# Altium schematic symbol library microchip.SCHLIB: 312 symbols (part 3 of 5)
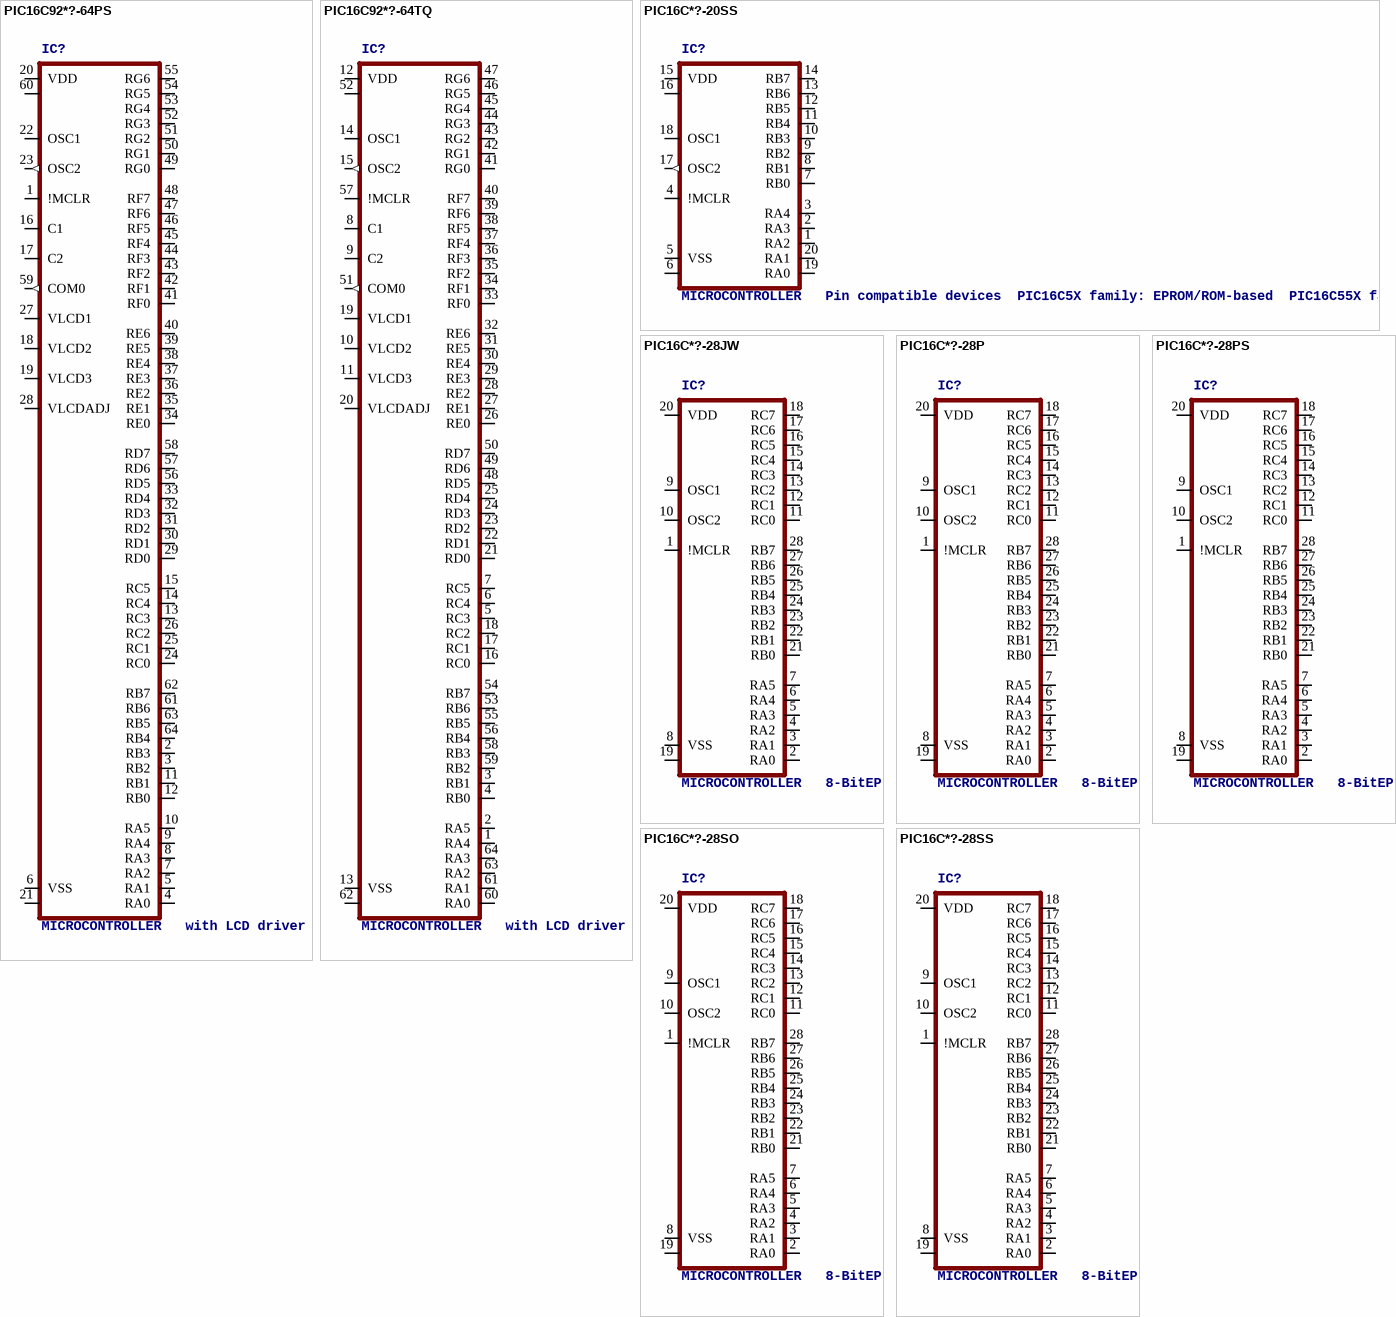
[diagram p45: symbols PIC16C92*?-64PS to PIC16C*?-28SS]

## PIC16C*?-28PS
designator IC?, comment MICROCONTROLLER   8-BitEPROM/ROM-based   Pin compatible:   PIC16CR62, PIC16C62A, PIC16C63, PIC16CR63   PIC16C66, PIC16C72, PIC16C73A, PIC16C76
MPN: PIC16C62B-20/SP; MPN: PIC16C62A-10/SP; MPN: PIC16C63-04I/SP; MPN: PIC16C66-04I/SP; MPN: PIC16C72A-04/SP; MPN: PIC16C73A-20/SP; MPN: PIC16C76-04/SP; MF: MICROCHIP; OC_FARNELL: 9759565; OC_NEWARK: 12C1900; OC_FARNELL: 1818502; OC_NEWARK: 23C3774; OC_FARNELL: 9759590; OC_NEWARK: 23C4025; OC_FARNELL: 685999; OC_NEWARK: 23C4276; OC_FARNELL: 1196858; OC_NEWARK: 12C1924; OC_FARNELL: 1196850; OC_NEWARK: 69K7069; OC_FARNELL: 1196836; OC_NEWARK: 96K3849; OC_FARNELL: unknown; OC_NEWARK: unknown
footprint DIL28-3
pins: 1 !MCLR, 2 RA0, 3 RA1, 4 RA2, 5 RA3, 6 RA4, 7 RA5, 8 VSS (power), 9 OSC1, 10 OSC2, 11 RC0, 12 RC1, 13 RC2, 14 RC3, 15 RC4, 16 RC5, 17 RC6, 18 RC7, 19 VSS@1 (power), 20 VDD (power), 21 RB0, 22 RB1, 23 RB2, 24 RB3, 25 RB4, 26 RB5, 27 RB6, 28 RB7

## PIC16C*?-28SO
designator IC?, comment MICROCONTROLLER   8-BitEPROM/ROM-based   Pin compatible:   PIC16CR62, PIC16C62A, PIC16C63, PIC16CR63   PIC16C66, PIC16C72, PIC16C73A, PIC16C76
MPN: PIC16C62A-20/SO; MPN: PIC16C63-04/SO; MPN: PIC16C66-10/SO; MPN: PIC16C72-04/SO; MPN: PIC16C73A-04/SO; MPN: PIC16C76-20/SO; MF: MICROCHIP; OC_FARNELL: 9759573; OC_NEWARK: 23C3782; OC_FARNELL: 9759581; OC_NEWARK: 97K7237; OC_FARNELL: 9759727; OC_NEWARK: 97K7254; OC_FARNELL: 9759891; OC_NEWARK: 23C4583; OC_FARNELL: 9759930; OC_NEWARK: 97K7282; OC_FARNELL: unknown; OC_NEWARK: 65K1040; OC_NEWARK: unknown
footprint SO28W
pins: 1 !MCLR, 2 RA0, 3 RA1, 4 RA2, 5 RA3, 6 RA4, 7 RA5, 8 VSS (power), 9 OSC1, 10 OSC2, 11 RC0, 12 RC1, 13 RC2, 14 RC3, 15 RC4, 16 RC5, 17 RC6, 18 RC7, 19 VSS@1 (power), 20 VDD (power), 21 RB0, 22 RB1, 23 RB2, 24 RB3, 25 RB4, 26 RB5, 27 RB6, 28 RB7

## PIC16C*?-28SS
designator IC?, comment MICROCONTROLLER   8-BitEPROM/ROM-based   Pin compatible:   PIC16CR62, PIC16C62A, PIC16C63, PIC16CR63   PIC16C66, PIC16C72, PIC16C73A, PIC16C76
MPN: PIC16C62A-04/SS; MPN: PIC16C63A-04/SS; MPN: PIC16C72A-04/SS; MPN: PIC16C73B-20I/SS; MF: MICROCHIP; OC_FARNELL: unknown; OC_NEWARK: 23C3766; OC_NEWARK: 96K3811; OC_NEWARK: unknown; OC_NEWARK: 23C4612; OC_FARNELL: 1137313; OC_NEWARK: 24M5884
footprint SSOP28
pins: 1 !MCLR, 2 RA0, 3 RA1, 4 RA2, 5 RA3, 6 RA4, 7 RA5, 8 VSS (power), 9 OSC1, 10 OSC2, 11 RC0, 12 RC1, 13 RC2, 14 RC3, 15 RC4, 16 RC5, 17 RC6, 18 RC7, 19 VSS@1 (power), 20 VDD (power), 21 RB0, 22 RB1, 23 RB2, 24 RB3, 25 RB4, 26 RB5, 27 RB6, 28 RB7

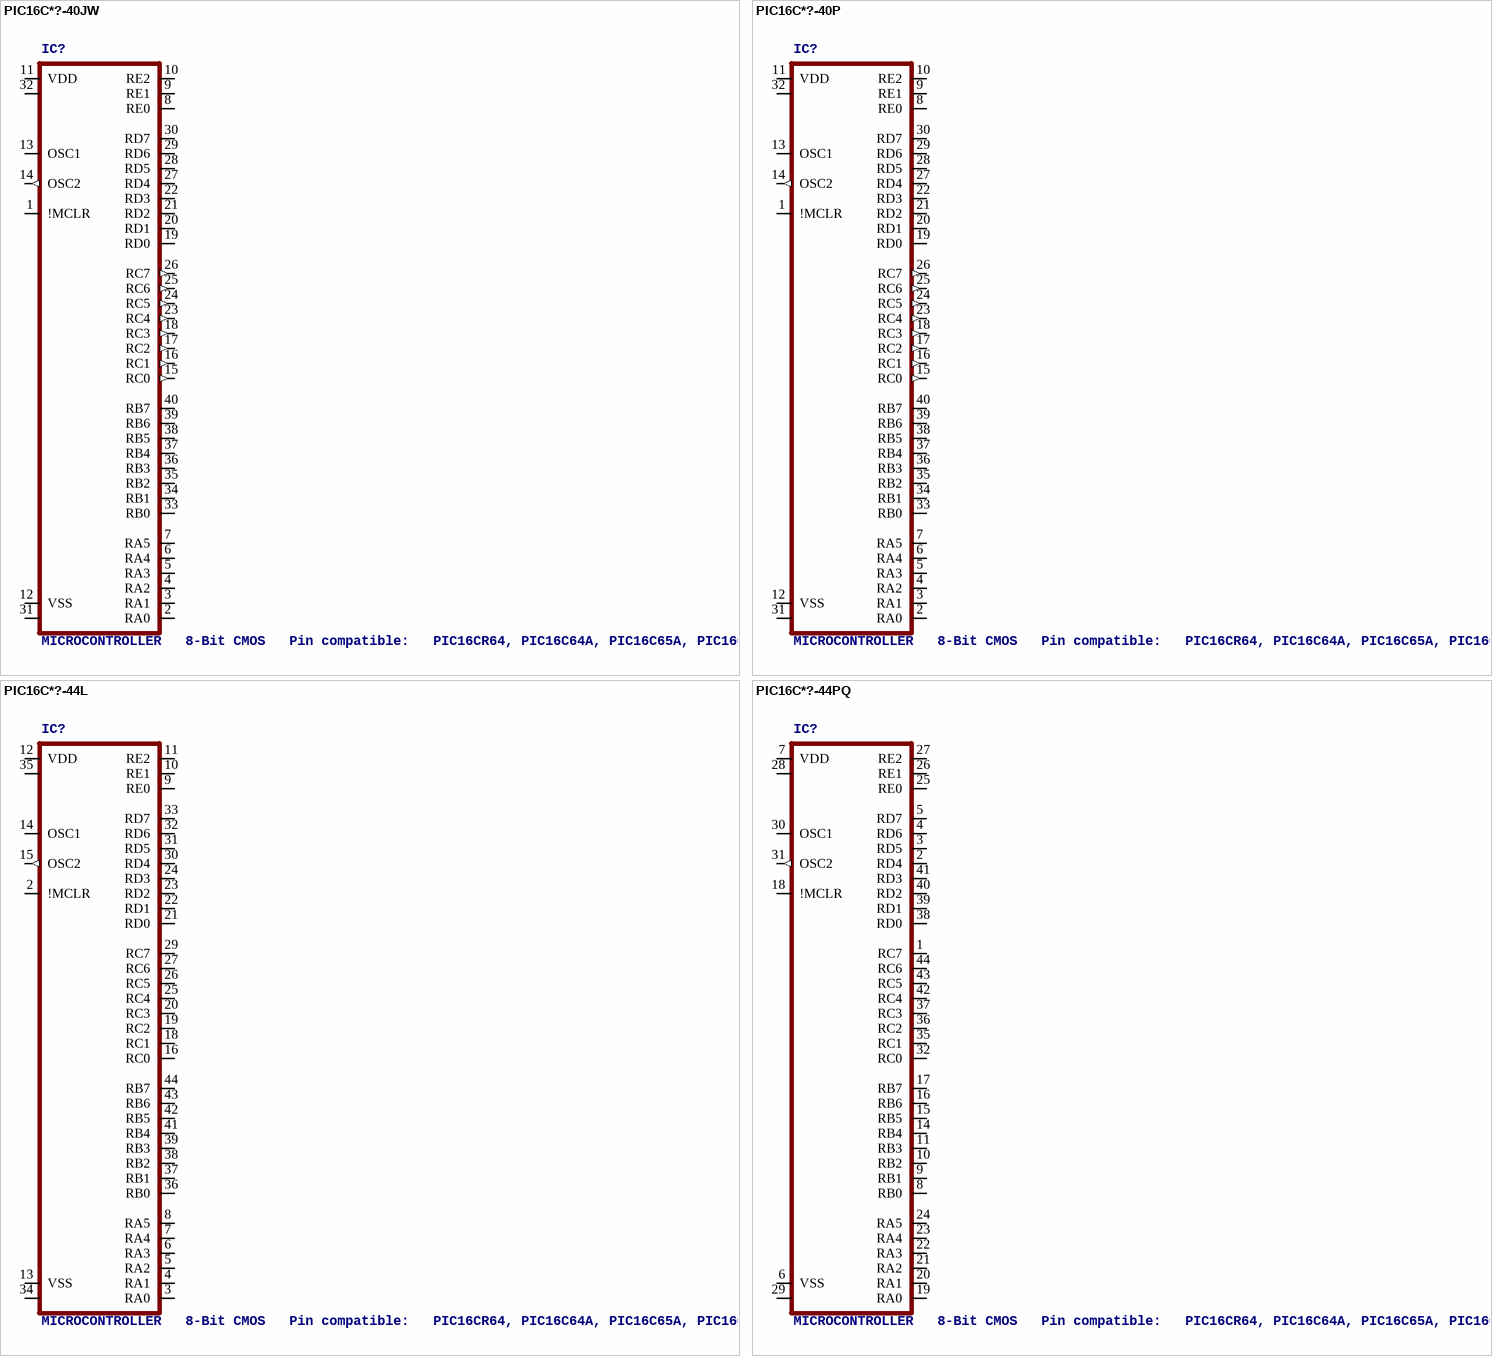
[diagram p18: symbols PIC16C*?-40JW to PIC16C*?-44PQ]

## PIC16C*?-40JW
designator IC?, comment MICROCONTROLLER   8-Bit CMOS   Pin compatible:   PIC16CR64, PIC16C64A, PIC16C65A, PIC16CR65, PIC16C67, PIC16C74A, PIC16C77
MPN: PIC16C64A-04I/P; MPN: PIC16C65A-04/P; MPN: PIC16C67-04/P; MPN: PIC16C74A-10/P; MPN: PIC16C77-20/P; MF: MICROCHIP; OC_FARNELL: 1084225; OC_NEWARK: 24M5871; OC_FARNELL: 9759670; OC_NEWARK: 97K7249; OC_FARNELL: 9759751; OC_NEWARK: 61K3443; OC_FARNELL: 1084347; OC_NEWARK: 97K7294; OC_FARNELL: 9760172; OC_NEWARK: 12C1937; OC_FARNELL: unknown; OC_NEWARK: unknown
footprint DIL40
pins: 1 !MCLR, 2 RA0, 3 RA1, 4 RA2, 5 RA3, 6 RA4, 7 RA5, 8 RE0, 9 RE1, 10 RE2, 11 VDD (power), 12 VSS (power), 13 OSC1, 14 OSC2 (out), 15 RC0 (out), 16 RC1 (out), 17 RC2 (out), 18 RC3 (out), 19 RD0, 20 RD1, 21 RD2, 22 RD3, 23 RC4 (out), 24 RC5 (out), 25 RC6 (out), 26 RC7 (out), 27 RD4, 28 RD5, 29 RD6, 30 RD7, 31 VSS@1 (power), 32 VDD@1 (power), 33 RB0, 34 RB1, 35 RB2, 36 RB3, 37 RB4, 38 RB5, 39 RB6, 40 RB7

## PIC16C*?-40P
designator IC?, comment MICROCONTROLLER   8-Bit CMOS   Pin compatible:   PIC16CR64, PIC16C64A, PIC16C65A, PIC16CR65, PIC16C67, PIC16C74A, PIC16C77
MPN: PIC16C64A-04I/P; MPN: PIC16C65A-04/P; MPN: PIC16C67-20/P; MPN: PIC16C74A-04I/P; MPN: PIC16C77-20I/P; MF: MICROCHIP; OC_FARNELL: 1084225; OC_NEWARK: 24M5871; OC_FARNELL: 9759670; OC_NEWARK: 97K7249; OC_FARNELL: 9759751; OC_NEWARK: 72K7295; OC_FARNELL: 9760059; OC_NEWARK: 31M5834; OC_FARNELL: 9760172; OC_NEWARK: 96K3855; OC_FARNELL: unknown; OC_NEWARK: unknown
footprint DIL40
pins: 1 !MCLR, 2 RA0, 3 RA1, 4 RA2, 5 RA3, 6 RA4, 7 RA5, 8 RE0, 9 RE1, 10 RE2, 11 VDD (power), 12 VSS (power), 13 OSC1, 14 OSC2 (out), 15 RC0 (out), 16 RC1 (out), 17 RC2 (out), 18 RC3 (out), 19 RD0, 20 RD1, 21 RD2, 22 RD3, 23 RC4 (out), 24 RC5 (out), 25 RC6 (out), 26 RC7 (out), 27 RD4, 28 RD5, 29 RD6, 30 RD7, 31 VSS@1 (power), 32 VDD@1 (power), 33 RB0, 34 RB1, 35 RB2, 36 RB3, 37 RB4, 38 RB5, 39 RB6, 40 RB7

## PIC16C*?-44L
designator IC?, comment MICROCONTROLLER   8-Bit CMOS   Pin compatible:   PIC16CR64, PIC16C64A, PIC16C65A, PIC16CR65, PIC16C67, PIC16C74A, PIC16C77
MPN: PIC16C64A-04/L; MPN: PIC16C65A-04/L; MPN: PIC16C67-04/L; MPN: PIC16C74A-10/L; MPN: PIC16C77-20I/L; MF: MICROCHIP; OC_FARNELL: 9759646; OC_NEWARK: 96K3813; OC_FARNELL: 9759662; OC_NEWARK: 97K7248; OC_FARNELL: 9759743; OC_NEWARK: 97K7255; OC_FARNELL: 9760067; OC_NEWARK: 01M8478; OC_FARNELL: 1196837; OC_NEWARK: 96K3854; OC_FARNELL: unknown; OC_NEWARK: unknown
footprint PLCC-44
pins: 1 NC, 2 !MCLR, 3 RA0, 4 RA1, 5 RA2, 6 RA3, 7 RA4, 8 RA5, 9 RE0, 10 RE1, 11 RE2, 12 VDD (power), 13 VSS (power), 14 OSC1, 15 OSC2 (out), 16 RC0, 17 NC@1, 18 RC1, 19 RC2, 20 RC3, 21 RD0, 22 RD1, 23 RD2, 24 RD3, 25 RC4, 26 RC5, 27 RC6, 28 NC@2, 29 RC7, 30 RD4, 31 RD5, 32 RD6, 33 RD7, 34 VSS@1 (power), 35 VDD@1 (power), 36 RB0, 37 RB1, 38 RB2, 39 RB3, 40 NC@3, 41 RB4, 42 RB5, 43 RB6, 44 RB7

## PIC16C*?-44PQ
designator IC?, comment MICROCONTROLLER   8-Bit CMOS   Pin compatible:   PIC16CR64, PIC16C64A, PIC16C65A, PIC16CR65, PIC16C67, PIC16C74A, PIC16C77
MPN: PIC16C64A-10I/PT; MPN: PIC16C65B-20/PT; MPN: PIC16C67-04/PQ; MPN: PIC16C74A-10I/PQ; MPN: PIC16C774-E/PT; MF: MICROCHIP; OC_FARNELL: unknown; OC_NEWARK: 23C4098; OC_NEWARK: 23C4244; OC_NEWARK: 23C4363; OC_NEWARK: 23C4735; OC_NEWARK: 92C4482; OC_NEWARK: unknown
footprint MQFP44-2
pins: 1 RC7, 2 RD4, 3 RD5, 4 RD6, 5 RD7, 6 VSS (power), 7 VDD (power), 8 RB0, 9 RB1, 10 RB2, 11 RB3, 12 NC, 13 NC@1, 14 RB4, 15 RB5, 16 RB6, 17 RB7, 18 !MCLR, 19 RA0, 20 RA1, 21 RA2, 22 RA3, 23 RA4, 24 RA5, 25 RE0, 26 RE1, 27 RE2, 28 VDD@1 (power), 29 VSS@1 (power), 30 OSC1, 31 OSC2 (out), 32 RC0, 33 NC@2, 34 NC@3, 35 RC1, 36 RC2, 37 RC3, 38 RD0, 39 RD1, 40 RD2, 41 RD3, 42 RC4, 43 RC5, 44 RC6

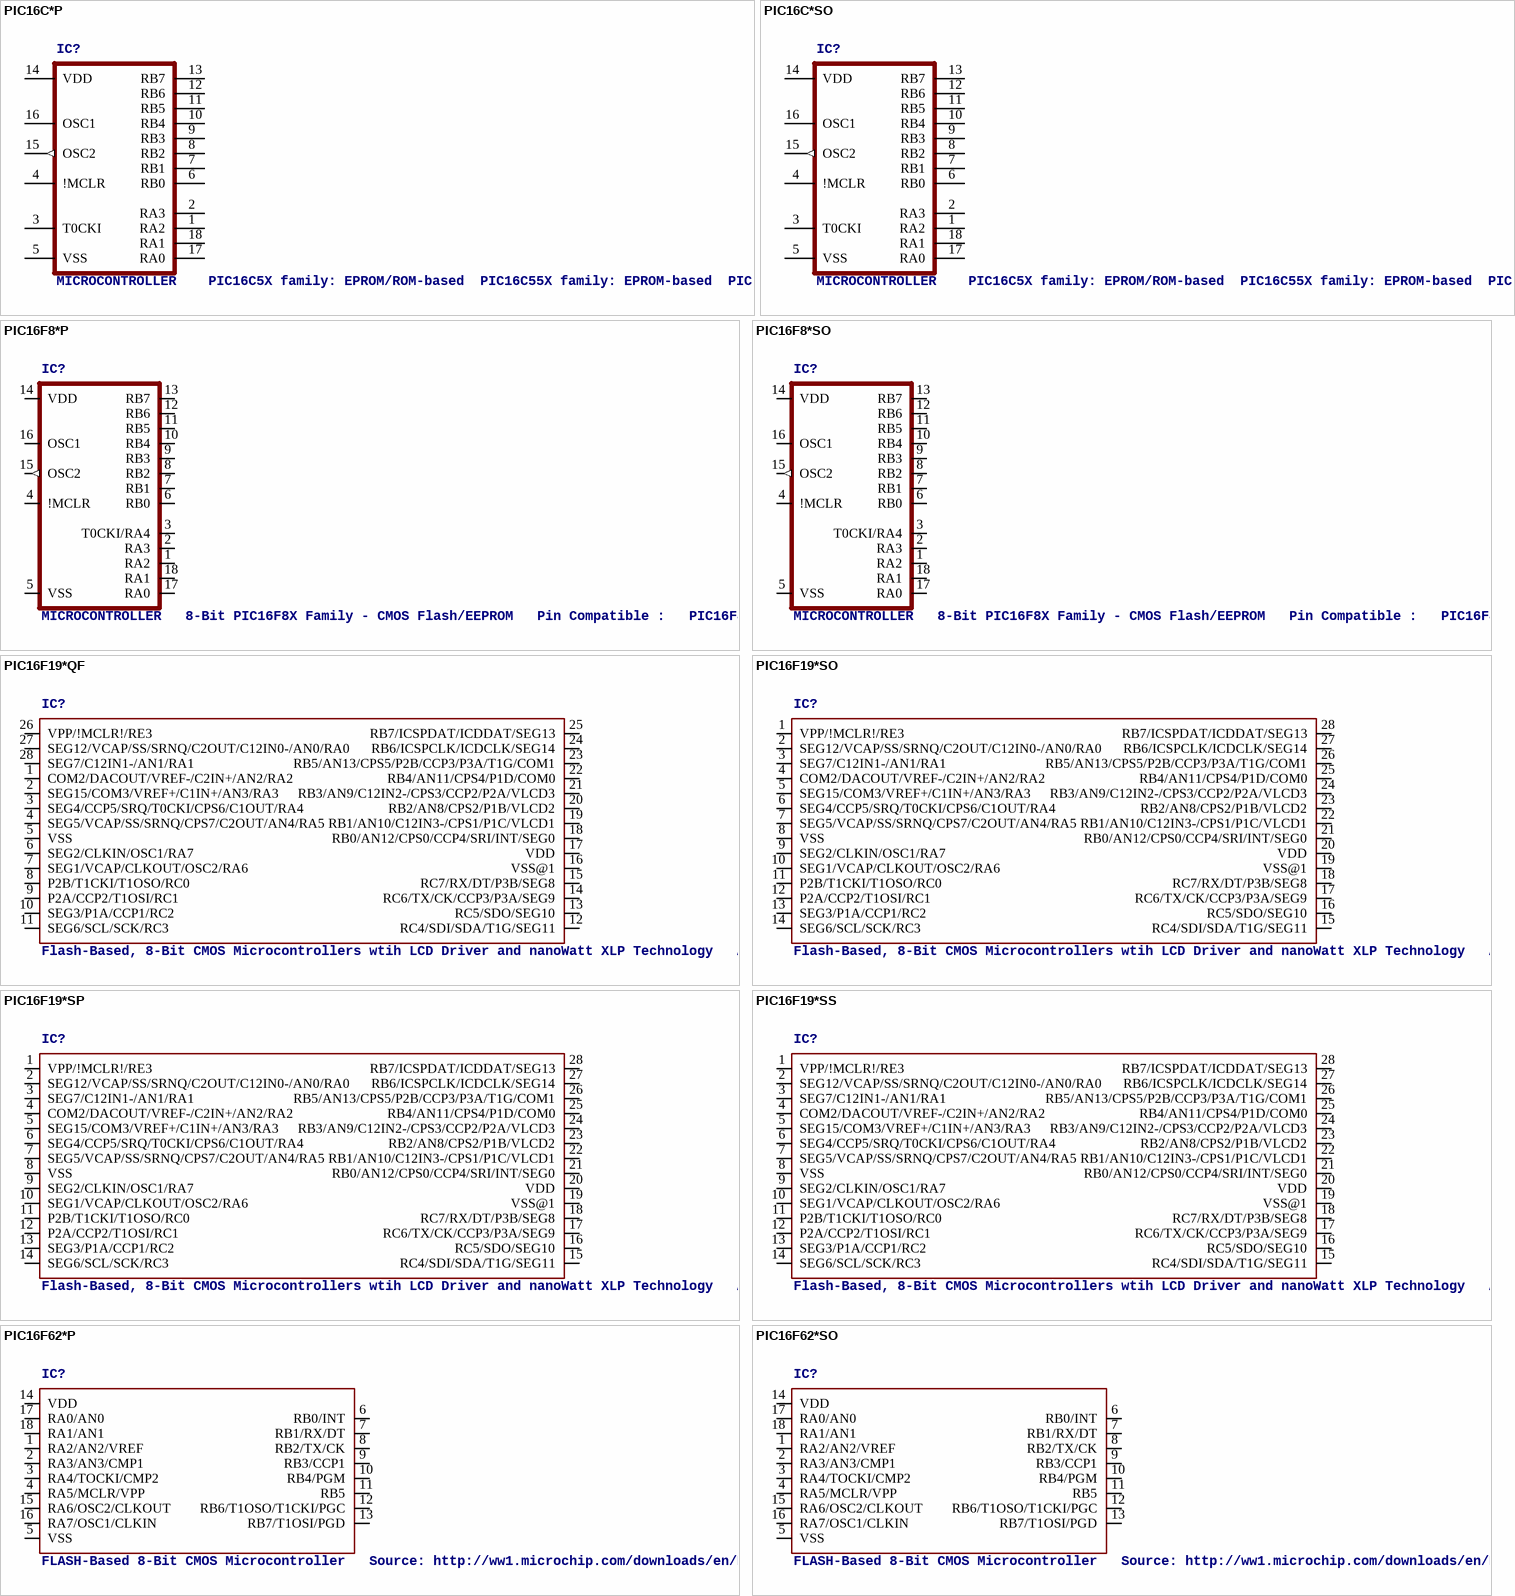
[diagram p19: symbols PIC16C*P to PIC16F62*SO]

## PIC16C*P
designator IC?, comment MICROCONTROLLER    PIC16C5X family: EPROM/ROM-based  PIC16C55X family: EPROM-based  PIC16C6X family  PIC16CE62X family: analog comparators/EEPROM data memory  PIC16C7X family: A/D converter  PIC16C71X family: A/D converter  PIC16F8X family: flash EEPROM    Pin compatible devices:   PIC16C154, PIC16CR154, PIC16C156, PIC16CR156, PIC16C158   PIC16CR158, PIC16C52, PIC16C54, PIC16C54A, PIC16CR54A   PIC16C56, PIC16C58A, PIC16CR58A, PIC16C61, PIC16C554   PIC16C556, PIC16C558, PIC16C620, PIC16C621, PIC16C622   PIC16C641, PIC16C642, PIC16C661, PIC16C662, PIC16C71   PIC16C710, PIC16C711, PIC16C715, PIC126F83, PIC16CR83   PIC16F84A, PIC16CR84   see also PIC16F8*
MPN: PIC16C54-RCI/P; MPN: PIC16C54A-04/P; MPN: PIC16C558-04/P; MPN: PIC16C554-04I/P; MPN: PIC16C558-20/P; MPN: PIC16C56-HS/P; MPN: PIC16C58B-04/P; MPN: PIC16C620-04/P; MPN: PIC16C621-04I/P; MPN: PIC16C622A-04I/P; MPN: PIC16C71-20I/P; MPN: PIC16C71-04/P; MPN: PIC16C711-04I/P; MPN: PIC16C715-20/P; MF: MICROCHIP; OC_FARNELL: unknown; OC_NEWARK: unknown; OC_FARNELL: 1084285; OC_NEWARK: 23C3204; OC_FARNELL: 1196847; OC_NEWARK: 61K3438; OC_FARNELL: 1084353; OC_NEWARK: 96K3797; OC_FARNELL: 9759204; OC_NEWARK: 23C3455; OC_FARNELL: 9759220; OC_NEWARK: 97K7200; OC_FARNELL: 1084307; OC_NEWARK: 23C3511; OC_FARNELL: 9759417; OC_NEWARK: 23C3736; OC_FARNELL: 1196828; OC_NEWARK: 24M5866; OC_FARNELL: 1196829; OC_NEWARK: 23C3904; OC_FARNELL: 9759549; OC_NEWARK: 23C3984; OC_FARNELL: 1196825; OC_NEWARK: 73K1290; OC_FARNELL: 9759778; OC_NEWARK: 69K7626; OC_FARNELL: 1084359; OC_NEWARK: 68K5331; OC_FARNELL: 1084360; OC_NEWARK: 97K7271
footprint DIL18
pins: 1 RA2, 2 RA3, 3 T0CKI, 4 !MCLR, 5 VSS (power), 6 RB0, 7 RB1, 8 RB2, 9 RB3, 10 RB4, 11 RB5, 12 RB6, 13 RB7, 14 VDD (power), 15 OSC2 (out), 16 OSC1, 17 RA0, 18 RA1

## PIC16C*SO
designator IC?, comment MICROCONTROLLER    PIC16C5X family: EPROM/ROM-based  PIC16C55X family: EPROM-based  PIC16C6X family  PIC16CE62X family: analog comparators/EEPROM data memory  PIC16C7X family: A/D converter  PIC16C71X family: A/D converter  PIC16F8X family: flash EEPROM    Pin compatible devices:   PIC16C154, PIC16CR154, PIC16C156, PIC16CR156, PIC16C158   PIC16CR158, PIC16C52, PIC16C54, PIC16C54A, PIC16CR54A   PIC16C56, PIC16C58A, PIC16CR58A, PIC16C61, PIC16C554   PIC16C556, PIC16C558, PIC16C620, PIC16C621, PIC16C622   PIC16C641, PIC16C642, PIC16C661, PIC16C662, PIC16C71   PIC16C710, PIC16C711, PIC16C715, PIC126F83, PIC16CR83   PIC16F84A, PIC16CR84   see also PIC16F8*
MPN: PIC16C54-XT/SO; MPN: PIC16C54A-04I/SO; MPN: PIC16C554-04/SO; MPN: PIC16C558-04/SO; MPN: PIC16C620-04/SO; MPN: PIC16C621-04I/SO; MPN: PIC16C622A-04I/SO; MPN: PIC16C710-20/SO; MPN: PIC16C711-20/SO; MPN: PIC16C715-04I/SO; MF: MICROCHIP; OC_FARNELL: unknown; OC_NEWARK: unknown; OC_FARNELL: 9759182; OC_NEWARK: 23C3207; OC_FARNELL: 1084342; OC_NEWARK: 23C3231; OC_FARNELL: 1084352; OC_NEWARK: 97K7196; OC_NEWARK: 23C3481; OC_FARNELL: 9759468; OC_NEWARK: 23C3838; OC_FARNELL: 9759492; OC_NEWARK: 23C3905; OC_FARNELL: 9759522; OC_NEWARK: 23C3985; OC_NEWARK: 23C4447; OC_FARNELL: 9759808; OC_NEWARK: 12C1918; OC_FARNELL: 1084362; OC_NEWARK: 23C4530
footprint SO-18W
pins: 1 RA2, 2 RA3, 3 T0CKI, 4 !MCLR, 5 VSS (power), 6 RB0, 7 RB1, 8 RB2, 9 RB3, 10 RB4, 11 RB5, 12 RB6, 13 RB7, 14 VDD (power), 15 OSC2 (out), 16 OSC1, 17 RA0, 18 RA1

## PIC16F8*P
designator IC?, comment MICROCONTROLLER   8-Bit PIC16F8X Family - CMOS Flash/EEPROM   Pin Compatible :   PIC16F83, PIC16CR83, PIC16F84A, PIC16CR84   see also PIC16C*
MPN: PIC16F83-04/P; MPN: PIC16F84A-04I/P; MF: MICROCHIP; OC_FARNELL: 1084354; OC_NEWARK: 97K7388; OC_FARNELL: 9760865; OC_NEWARK: 69K7635
footprint DIL18
pins: 1 RA2, 2 RA3, 3 T0CKI/RA4, 4 !MCLR, 5 VSS (power), 6 RB0, 7 RB1, 8 RB2, 9 RB3, 10 RB4, 11 RB5, 12 RB6, 13 RB7, 14 VDD (power), 15 OSC2 (out), 16 OSC1, 17 RA0, 18 RA1

## PIC16F8*SO
designator IC?, comment MICROCONTROLLER   8-Bit PIC16F8X Family - CMOS Flash/EEPROM   Pin Compatible :   PIC16F83, PIC16CR83, PIC16F84A, PIC16CR84   see also PIC16C*
MPN: PIC16F83-04/SO; MPN: PIC16F84A-04/SO; MF: MICROCHIP; OC_FARNELL: unknown; OC_NEWARK: 23C4997; OC_FARNELL: 9760890; OC_NEWARK: 69K7634
footprint SO-18W
pins: 1 RA2, 2 RA3, 3 T0CKI/RA4, 4 !MCLR, 5 VSS (power), 6 RB0, 7 RB1, 8 RB2, 9 RB3, 10 RB4, 11 RB5, 12 RB6, 13 RB7, 14 VDD (power), 15 OSC2 (out), 16 OSC1, 17 RA0, 18 RA1

## PIC16F19*QF
designator IC?, comment Flash-Based, 8-Bit CMOS Microcontrollers wtih LCD Driver and nanoWatt XLP Technology   Auto generated by make-symbol-device-package-bsdl.ulp Rev. 33 Source: http://ww1.microchip.com/downloads/en/DeviceDoc/41364D.pdf
MPN: PIC16F1933-I/ML; MPN: PIC16F1936-I/ML; MPN: PIC16F1938-E/ML; OC_FARNELL: 1755812; OC_NEWARK: 08R1936; OC_FARNELL: 1755819; OC_NEWARK: 34R4515; OC_FARNELL: 1755827; OC_NEWARK: 08R1943
footprint QFN28-ML_6X6MM
pins: 1 COM2/DACOUT/VREF-/C2IN+/AN2/RA2, 2 SEG15/COM3/VREF+/C1IN+/AN3/RA3, 3 SEG4/CCP5/SRQ/T0CKI/CPS6/C1OUT/RA4, 4 SEG5/VCAP/SS/SRNQ/CPS7/C2OUT/AN4/RA5, 5 VSS (power), 6 SEG2/CLKIN/OSC1/RA7, 7 SEG1/VCAP/CLKOUT/OSC2/RA6, 8 P2B/T1CKI/T1OSO/RC0, 9 P2A/CCP2/T1OSI/RC1, 10 SEG3/P1A/CCP1/RC2, 11 SEG6/SCL/SCK/RC3, 12 RC4/SDI/SDA/T1G/SEG11, 13 RC5/SDO/SEG10, 14 RC6/TX/CK/CCP3/P3A/SEG9, 15 RC7/RX/DT/P3B/SEG8, 16 VSS@1 (power), 17 VDD (power), 18 RB0/AN12/CPS0/CCP4/SRI/INT/SEG0, 19 RB1/AN10/C12IN3-/CPS1/P1C/VLCD1, 20 RB2/AN8/CPS2/P1B/VLCD2, 21 RB3/AN9/C12IN2-/CPS3/CCP2/P2A/VLCD3, 22 RB4/AN11/CPS4/P1D/COM0, 23 RB5/AN13/CPS5/P2B/CCP3/P3A/T1G/COM1, 24 RB6/ICSPCLK/ICDCLK/SEG14, 25 RB7/ICSPDAT/ICDDAT/SEG13, 26 VPP/!MCLR!/RE3, 27 SEG12/VCAP/SS/SRNQ/C2OUT/C12IN0-/AN0/RA0, 28 SEG7/C12IN1-/AN1/RA1

## PIC16F19*SO
designator IC?, comment Flash-Based, 8-Bit CMOS Microcontrollers wtih LCD Driver and nanoWatt XLP Technology   Auto generated by make-symbol-device-package-bsdl.ulp Rev. 33 Source: http://ww1.microchip.com/downloads/en/DeviceDoc/41364D.pdf
MPN: PIC16F1933-I/SO; MPN: PIC16F1936-I/SO; MPN: PIC16F1938-I/SO; OC_FARNELL: 1755812; OC_NEWARK: 08R1937; OC_FARNELL: 1755819; OC_NEWARK: 34R4516; OC_FARNELL: 1755828; OC_NEWARK: 08R1948
footprint SO28W
pins: 1 VPP/!MCLR!/RE3, 2 SEG12/VCAP/SS/SRNQ/C2OUT/C12IN0-/AN0/RA0, 3 SEG7/C12IN1-/AN1/RA1, 4 COM2/DACOUT/VREF-/C2IN+/AN2/RA2, 5 SEG15/COM3/VREF+/C1IN+/AN3/RA3, 6 SEG4/CCP5/SRQ/T0CKI/CPS6/C1OUT/RA4, 7 SEG5/VCAP/SS/SRNQ/CPS7/C2OUT/AN4/RA5, 8 VSS (power), 9 SEG2/CLKIN/OSC1/RA7, 10 SEG1/VCAP/CLKOUT/OSC2/RA6, 11 P2B/T1CKI/T1OSO/RC0, 12 P2A/CCP2/T1OSI/RC1, 13 SEG3/P1A/CCP1/RC2, 14 SEG6/SCL/SCK/RC3, 15 RC4/SDI/SDA/T1G/SEG11, 16 RC5/SDO/SEG10, 17 RC6/TX/CK/CCP3/P3A/SEG9, 18 RC7/RX/DT/P3B/SEG8, 19 VSS@1 (power), 20 VDD (power), 21 RB0/AN12/CPS0/CCP4/SRI/INT/SEG0, 22 RB1/AN10/C12IN3-/CPS1/P1C/VLCD1, 23 RB2/AN8/CPS2/P1B/VLCD2, 24 RB3/AN9/C12IN2-/CPS3/CCP2/P2A/VLCD3, 25 RB4/AN11/CPS4/P1D/COM0, 26 RB5/AN13/CPS5/P2B/CCP3/P3A/T1G/COM1, 27 RB6/ICSPCLK/ICDCLK/SEG14, 28 RB7/ICSPDAT/ICDDAT/SEG13

## PIC16F19*SP
designator IC?, comment Flash-Based, 8-Bit CMOS Microcontrollers wtih LCD Driver and nanoWatt XLP Technology   Auto generated by make-symbol-device-package-bsdl.ulp Rev. 33 Source: http://ww1.microchip.com/downloads/en/DeviceDoc/41364D.pdf
MPN: PIC16F1933-I/SP; MPN: PIC16F1936-I/SP; MPN: PIC16F1938-I/SP; OC_FARNELL: 1755814; OC_NEWARK: 08R1938; OC_FARNELL: 1755822; OC_NEWARK: 45P4765; OC_FARNELL: 1755829; OC_NEWARK: 08R1949
footprint DIL28-3
pins: 1 VPP/!MCLR!/RE3, 2 SEG12/VCAP/SS/SRNQ/C2OUT/C12IN0-/AN0/RA0, 3 SEG7/C12IN1-/AN1/RA1, 4 COM2/DACOUT/VREF-/C2IN+/AN2/RA2, 5 SEG15/COM3/VREF+/C1IN+/AN3/RA3, 6 SEG4/CCP5/SRQ/T0CKI/CPS6/C1OUT/RA4, 7 SEG5/VCAP/SS/SRNQ/CPS7/C2OUT/AN4/RA5, 8 VSS (power), 9 SEG2/CLKIN/OSC1/RA7, 10 SEG1/VCAP/CLKOUT/OSC2/RA6, 11 P2B/T1CKI/T1OSO/RC0, 12 P2A/CCP2/T1OSI/RC1, 13 SEG3/P1A/CCP1/RC2, 14 SEG6/SCL/SCK/RC3, 15 RC4/SDI/SDA/T1G/SEG11, 16 RC5/SDO/SEG10, 17 RC6/TX/CK/CCP3/P3A/SEG9, 18 RC7/RX/DT/P3B/SEG8, 19 VSS@1 (power), 20 VDD (power), 21 RB0/AN12/CPS0/CCP4/SRI/INT/SEG0, 22 RB1/AN10/C12IN3-/CPS1/P1C/VLCD1, 23 RB2/AN8/CPS2/P1B/VLCD2, 24 RB3/AN9/C12IN2-/CPS3/CCP2/P2A/VLCD3, 25 RB4/AN11/CPS4/P1D/COM0, 26 RB5/AN13/CPS5/P2B/CCP3/P3A/T1G/COM1, 27 RB6/ICSPCLK/ICDCLK/SEG14, 28 RB7/ICSPDAT/ICDDAT/SEG13

## PIC16F19*SS
designator IC?, comment Flash-Based, 8-Bit CMOS Microcontrollers wtih LCD Driver and nanoWatt XLP Technology   Auto generated by make-symbol-device-package-bsdl.ulp Rev. 33 Source: http://ww1.microchip.com/downloads/en/DeviceDoc/41364D.pdf
MPN: PIC16F1933T-I/SS; MPN: PIC16F1936-E/SS; MPN: PIC16F1938-E/SS; OC_FARNELL: 1755815; OC_NEWARK: 08R1942; OC_FARNELL: 1755823; OC_NEWARK: 45P4762; OC_FARNELL: 1755830; OC_NEWARK: 08R1946
footprint SSOP28
pins: 1 VPP/!MCLR!/RE3, 2 SEG12/VCAP/SS/SRNQ/C2OUT/C12IN0-/AN0/RA0, 3 SEG7/C12IN1-/AN1/RA1, 4 COM2/DACOUT/VREF-/C2IN+/AN2/RA2, 5 SEG15/COM3/VREF+/C1IN+/AN3/RA3, 6 SEG4/CCP5/SRQ/T0CKI/CPS6/C1OUT/RA4, 7 SEG5/VCAP/SS/SRNQ/CPS7/C2OUT/AN4/RA5, 8 VSS (power), 9 SEG2/CLKIN/OSC1/RA7, 10 SEG1/VCAP/CLKOUT/OSC2/RA6, 11 P2B/T1CKI/T1OSO/RC0, 12 P2A/CCP2/T1OSI/RC1, 13 SEG3/P1A/CCP1/RC2, 14 SEG6/SCL/SCK/RC3, 15 RC4/SDI/SDA/T1G/SEG11, 16 RC5/SDO/SEG10, 17 RC6/TX/CK/CCP3/P3A/SEG9, 18 RC7/RX/DT/P3B/SEG8, 19 VSS@1 (power), 20 VDD (power), 21 RB0/AN12/CPS0/CCP4/SRI/INT/SEG0, 22 RB1/AN10/C12IN3-/CPS1/P1C/VLCD1, 23 RB2/AN8/CPS2/P1B/VLCD2, 24 RB3/AN9/C12IN2-/CPS3/CCP2/P2A/VLCD3, 25 RB4/AN11/CPS4/P1D/COM0, 26 RB5/AN13/CPS5/P2B/CCP3/P3A/T1G/COM1, 27 RB6/ICSPCLK/ICDCLK/SEG14, 28 RB7/ICSPDAT/ICDDAT/SEG13

## PIC16F62*P
designator IC?, comment FLASH-Based 8-Bit CMOS Microcontroller   Source: http://ww1.microchip.com/downloads/en/DeviceDoc/40300C.pdf
MPN: PIC16F627-04/P; MPN: PIC16F628-04I/P; MF: MICROCHIP; OC_FARNELL: 1084298; OC_NEWARK: 23C4960; OC_FARNELL: 9760407; OC_NEWARK: 19C7272
footprint DIL18
pins: 1 RA2/AN2/VREF, 2 RA3/AN3/CMP1, 3 RA4/TOCKI/CMP2, 4 RA5/MCLR/VPP, 5 VSS (power), 6 RB0/INT, 7 RB1/RX/DT, 8 RB2/TX/CK, 9 RB3/CCP1, 10 RB4/PGM, 11 RB5, 12 RB6/T1OSO/T1CKI/PGC, 13 RB7/T1OSI/PGD, 14 VDD (power), 15 RA6/OSC2/CLKOUT, 16 RA7/OSC1/CLKIN, 17 RA0/AN0, 18 RA1/AN1

## PIC16F62*SO
designator IC?, comment FLASH-Based 8-Bit CMOS Microcontroller   Source: http://ww1.microchip.com/downloads/en/DeviceDoc/40300C.pdf
MPN: PIC16F627-04I/SO; MPN: PIC16F628-20I/SO; MF: MICROCHIP; OC_FARNELL: 9760296; OC_NEWARK: 19C7271; OC_FARNELL: 9760415; OC_NEWARK: 23C4986
footprint SO-18W
pins: 1 RA2/AN2/VREF, 2 RA3/AN3/CMP1, 3 RA4/TOCKI/CMP2, 4 RA5/MCLR/VPP, 5 VSS (power), 6 RB0/INT, 7 RB1/RX/DT, 8 RB2/TX/CK, 9 RB3/CCP1, 10 RB4/PGM, 11 RB5, 12 RB6/T1OSO/T1CKI/PGC, 13 RB7/T1OSI/PGD, 14 VDD (power), 15 RA6/OSC2/CLKOUT, 16 RA7/OSC1/CLKIN, 17 RA0/AN0, 18 RA1/AN1

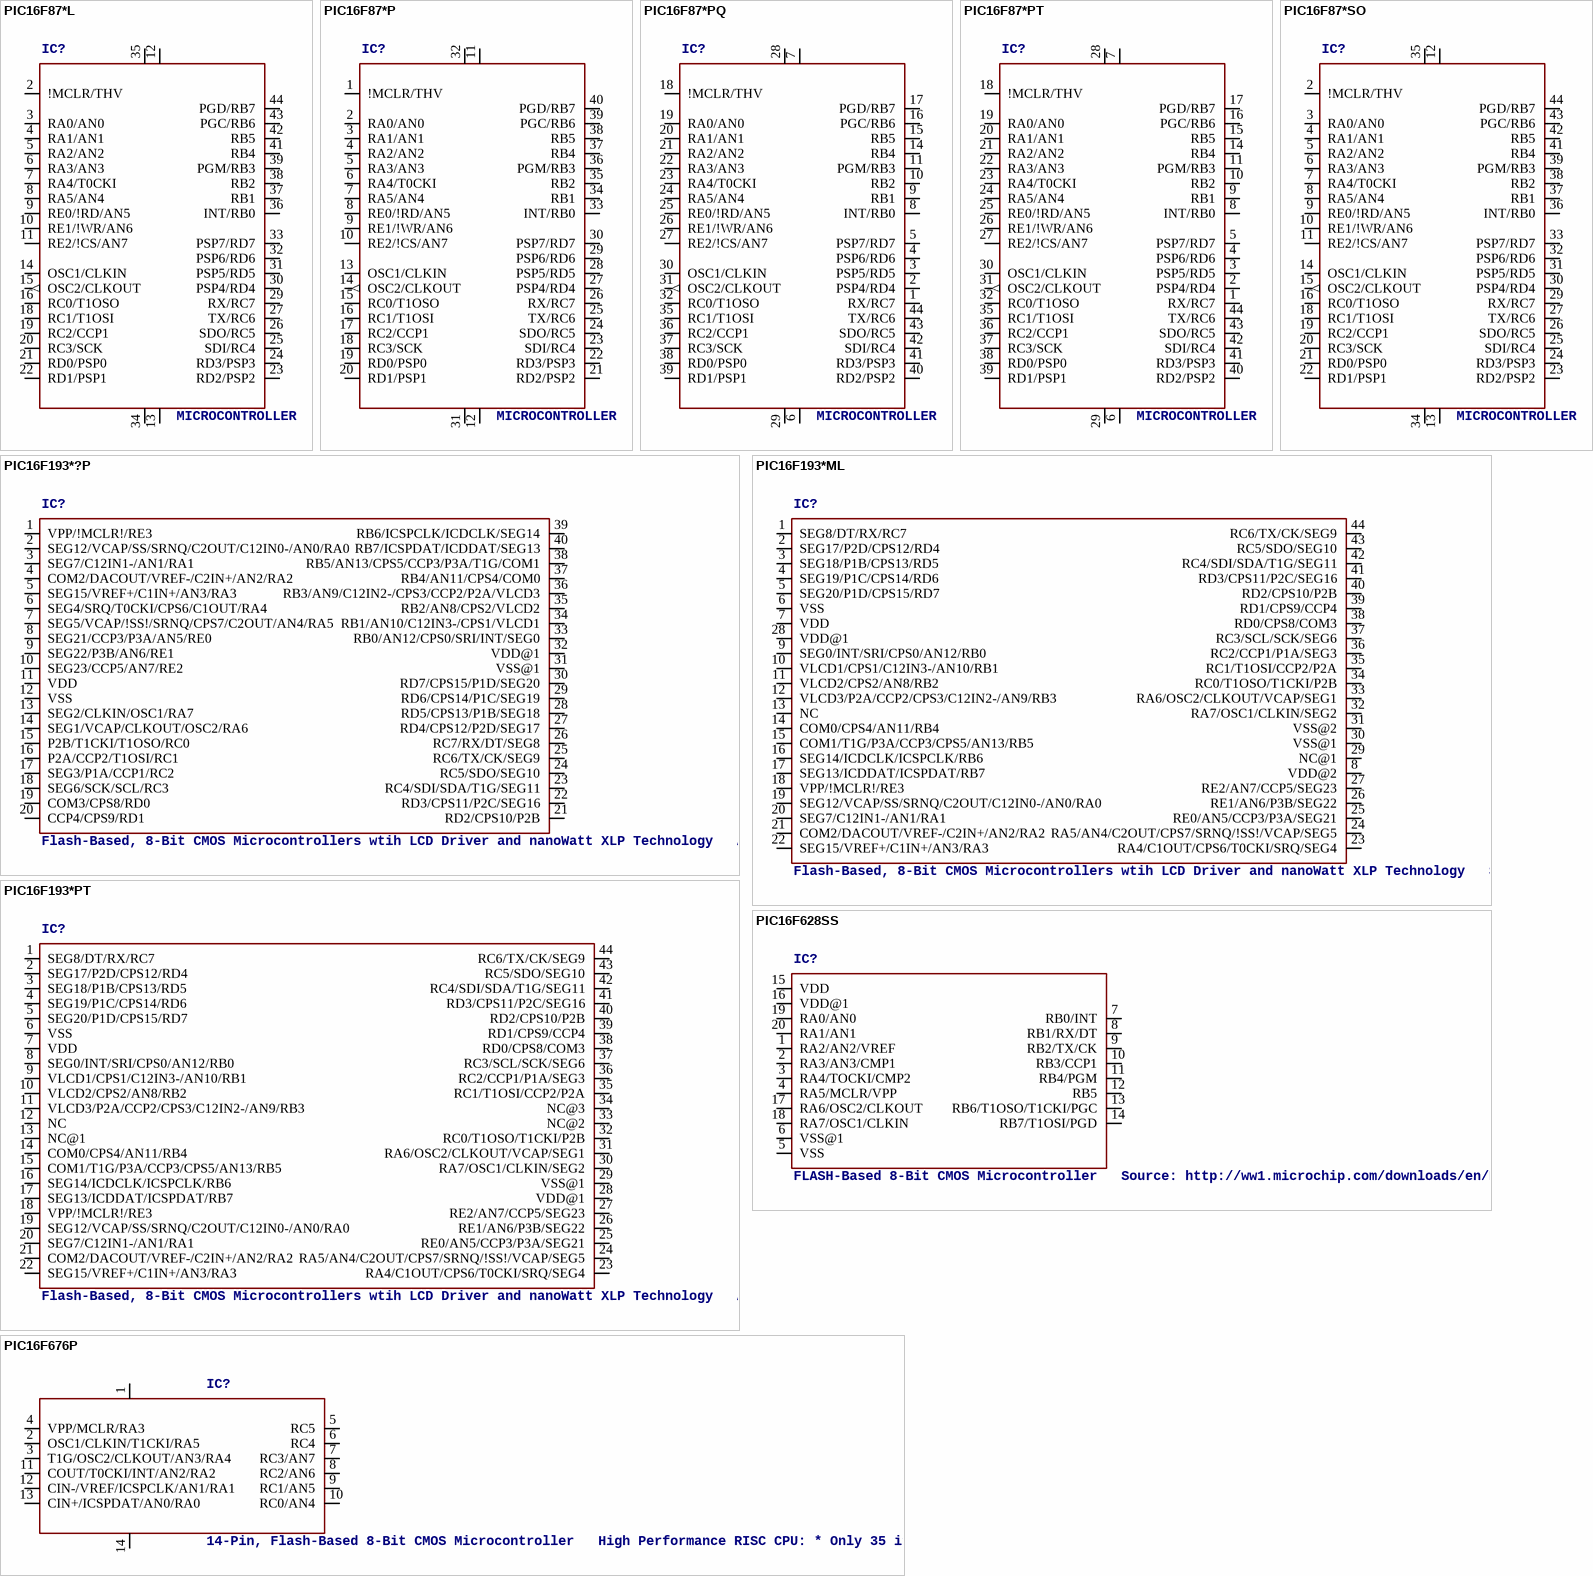
[diagram p20: symbols PIC16F87*L to PIC16F676P]

## PIC16F87*L
designator IC?, comment MICROCONTROLLER
MPN: PIC16F874-04/L; MPN: PIC16F877-20/L; MF: MICROCHIP; OC_FARNELL: 9761160; OC_NEWARK: 23C5056; OC_FARNELL: 1660042; OC_NEWARK: 12C1952
footprint PLCC-44
pins: 2 !MCLR/THV, 3 RA0/AN0, 4 RA1/AN1, 5 RA2/AN2, 6 RA3/AN3, 7 RA4/T0CKI, 8 RA5/AN4, 9 RE0/!RD/AN5, 10 RE1/!WR/AN6, 11 RE2/!CS/AN7, 12 VDD (power), 13 VSS (power), 14 OSC1/CLKIN, 15 OSC2/CLKOUT (out), 16 RC0/T1OSO, 18 RC1/T1OSI, 19 RC2/CCP1, 20 RC3/SCK, 21 RD0/PSP0, 22 RD1/PSP1, 23 RD2/PSP2, 24 RD3/PSP3, 25 SDI/RC4, 26 SDO/RC5, 27 TX/RC6, 29 RX/RC7, 30 PSP4/RD4, 31 PSP5/RD5, 32 PSP6/RD6, 33 PSP7/RD7, 34 VSS@1 (power), 35 VDD@1 (power), 36 INT/RB0, 37 RB1, 38 RB2, 39 PGM/RB3, 41 RB4, 42 RB5, 43 PGC/RB6, 44 PGD/RB7

## PIC16F87*P
designator IC?, comment MICROCONTROLLER
MPN: PIC16F874-04I/P; MPN: PIC16F877-04/P; MF: MICROCHIP; OC_FARNELL: 1196797; OC_NEWARK: 24M5903; OC_FARNELL: 9761349; OC_NEWARK: 61K3463
footprint DIL40
pins: 1 !MCLR/THV, 2 RA0/AN0, 3 RA1/AN1, 4 RA2/AN2, 5 RA3/AN3, 6 RA4/T0CKI, 7 RA5/AN4, 8 RE0/!RD/AN5, 9 RE1/!WR/AN6, 10 RE2/!CS/AN7, 11 VDD (power), 12 VSS (power), 13 OSC1/CLKIN, 14 OSC2/CLKOUT (out), 15 RC0/T1OSO, 16 RC1/T1OSI, 17 RC2/CCP1, 18 RC3/SCK, 19 RD0/PSP0, 20 RD1/PSP1, 21 RD2/PSP2, 22 RD3/PSP3, 23 SDI/RC4, 24 SDO/RC5, 25 TX/RC6, 26 RX/RC7, 27 PSP4/RD4, 28 PSP5/RD5, 29 PSP6/RD6, 30 PSP7/RD7, 31 VSS@1 (power), 32 VDD@1 (power), 33 INT/RB0, 34 RB1, 35 RB2, 36 PGM/RB3, 37 RB4, 38 RB5, 39 PGC/RB6, 40 PGD/RB7

## PIC16F87*PQ
designator IC?, comment MICROCONTROLLER
MPN: PIC16F874-20I/PQ; MPN: PIC16F877-04/PQ; MF: MICROCHIP; OC_FARNELL: 1084251; OC_NEWARK: 97K7435; OC_FARNELL: 9761357; OC_NEWARK: 23C5094
footprint MQFP44-2
pins: 1 RX/RC7, 2 PSP4/RD4, 3 PSP5/RD5, 4 PSP6/RD6, 5 PSP7/RD7, 6 VSS (power), 7 VDD (power), 8 INT/RB0, 9 RB1, 10 RB2, 11 PGM/RB3, 14 RB4, 15 RB5, 16 PGC/RB6, 17 PGD/RB7, 18 !MCLR/THV, 19 RA0/AN0, 20 RA1/AN1, 21 RA2/AN2, 22 RA3/AN3, 23 RA4/T0CKI, 24 RA5/AN4, 25 RE0/!RD/AN5, 26 RE1/!WR/AN6, 27 RE2/!CS/AN7, 28 VDD@1 (power), 29 VSS@1 (power), 30 OSC1/CLKIN, 31 OSC2/CLKOUT (out), 32 RC0/T1OSO, 35 RC1/T1OSI, 36 RC2/CCP1, 37 RC3/SCK, 38 RD0/PSP0, 39 RD1/PSP1, 40 RD2/PSP2, 41 RD3/PSP3, 42 SDI/RC4, 43 SDO/RC5, 44 TX/RC6

## PIC16F87*PT
designator IC?, comment MICROCONTROLLER
MPN: PIC16F874-04/PQ; MPN: PIC16F877-04/PQ; MF: MICROCHIP; OC_FARNELL: 1084251; OC_NEWARK: 97K7429; OC_FARNELL: 9761411; OC_NEWARK: 23C5094
footprint TQFP44
pins: 1 RX/RC7, 2 PSP4/RD4, 3 PSP5/RD5, 4 PSP6/RD6, 5 PSP7/RD7, 6 VSS (power), 7 VDD (power), 8 INT/RB0, 9 RB1, 10 RB2, 11 PGM/RB3, 14 RB4, 15 RB5, 16 PGC/RB6, 17 PGD/RB7, 18 !MCLR/THV, 19 RA0/AN0, 20 RA1/AN1, 21 RA2/AN2, 22 RA3/AN3, 23 RA4/T0CKI, 24 RA5/AN4, 25 RE0/!RD/AN5, 26 RE1/!WR/AN6, 27 RE2/!CS/AN7, 28 VDD@1 (power), 29 VSS@1 (power), 30 OSC1/CLKIN, 31 OSC2/CLKOUT (out), 32 RC0/T1OSO, 35 RC1/T1OSI, 36 RC2/CCP1, 37 RC3/SCK, 38 RD0/PSP0, 39 RD1/PSP1, 40 RD2/PSP2, 41 RD3/PSP3, 42 SDI/RC4, 43 SDO/RC5, 44 TX/RC6

## PIC16F87*SO
designator IC?, comment MICROCONTROLLER
OC_FARNELL: unknown; OC_NEWARK: unknown
footprint S44
pins: 2 !MCLR/THV, 3 RA0/AN0, 4 RA1/AN1, 5 RA2/AN2, 6 RA3/AN3, 7 RA4/T0CKI, 8 RA5/AN4, 9 RE0/!RD/AN5, 10 RE1/!WR/AN6, 11 RE2/!CS/AN7, 12 VDD (power), 13 VSS (power), 14 OSC1/CLKIN, 15 OSC2/CLKOUT (out), 16 RC0/T1OSO, 18 RC1/T1OSI, 19 RC2/CCP1, 20 RC3/SCK, 21 RD0/PSP0, 22 RD1/PSP1, 23 RD2/PSP2, 24 RD3/PSP3, 25 SDI/RC4, 26 SDO/RC5, 27 TX/RC6, 29 RX/RC7, 30 PSP4/RD4, 31 PSP5/RD5, 32 PSP6/RD6, 33 PSP7/RD7, 34 VSS@1 (power), 35 VDD@1 (power), 36 INT/RB0, 37 RB1, 38 RB2, 39 PGM/RB3, 41 RB4, 42 RB5, 43 PGC/RB6, 44 PGD/RB7

## PIC16F193*?P
designator IC?, comment Flash-Based, 8-Bit CMOS Microcontrollers wtih LCD Driver and nanoWatt XLP Technology   Auto generated by make-symbol-device-package-bsdl.ulp Rev. 33 Source: http://ww1.microchip.com/downloads/en/DeviceDoc/41364D.pdf
MPN: PIC16F1934-I/P; MPN: PIC16F1937-I/P; MPN: PIC16F1939-I/P; OC_FARNELL: 1755817; OC_NEWARK: 45P4755; OC_FARNELL: 1755825; OC_NEWARK: 45P4774; OC_FARNELL: 1755832; OC_NEWARK: 08R1958
footprint DIL40
pins: 1 VPP/!MCLR!/RE3, 2 SEG12/VCAP/SS/SRNQ/C2OUT/C12IN0-/AN0/RA0, 3 SEG7/C12IN1-/AN1/RA1, 4 COM2/DACOUT/VREF-/C2IN+/AN2/RA2, 5 SEG15/VREF+/C1IN+/AN3/RA3, 6 SEG4/SRQ/T0CKI/CPS6/C1OUT/RA4, 7 SEG5/VCAP/!SS!/SRNQ/CPS7/C2OUT/AN4/RA5, 8 SEG21/CCP3/P3A/AN5/RE0, 9 SEG22/P3B/AN6/RE1, 10 SEG23/CCP5/AN7/RE2, 11 VDD (power), 12 VSS (power), 13 SEG2/CLKIN/OSC1/RA7, 14 SEG1/VCAP/CLKOUT/OSC2/RA6, 15 P2B/T1CKI/T1OSO/RC0, 16 P2A/CCP2/T1OSI/RC1, 17 SEG3/P1A/CCP1/RC2, 18 SEG6/SCK/SCL/RC3, 19 COM3/CPS8/RD0, 20 CCP4/CPS9/RD1, 21 RD2/CPS10/P2B, 22 RD3/CPS11/P2C/SEG16, 23 RC4/SDI/SDA/T1G/SEG11, 24 RC5/SDO/SEG10, 25 RC6/TX/CK/SEG9, 26 RC7/RX/DT/SEG8, 27 RD4/CPS12/P2D/SEG17, 28 RD5/CPS13/P1B/SEG18, 29 RD6/CPS14/P1C/SEG19, 30 RD7/CPS15/P1D/SEG20, 31 VSS@1 (power), 32 VDD@1 (power), 33 RB0/AN12/CPS0/SRI/INT/SEG0, 34 RB1/AN10/C12IN3-/CPS1/VLCD1, 35 RB2/AN8/CPS2/VLCD2, 36 RB3/AN9/C12IN2-/CPS3/CCP2/P2A/VLCD3, 37 RB4/AN11/CPS4/COM0, 38 RB5/AN13/CPS5/CCP3/P3A/T1G/COM1, 39 RB6/ICSPCLK/ICDCLK/SEG14, 40 RB7/ICSPDAT/ICDDAT/SEG13

## PIC16F193*ML
designator IC?, comment Flash-Based, 8-Bit CMOS Microcontrollers wtih LCD Driver and nanoWatt XLP Technology   Source: http://ww1.microchip.com/downloads/en/DeviceDoc/41364D.pdf
MPN: PIC16F1934-I/ML; MPN: PIC16F1937-I/ML; MPN: PIC16F1939-I/ML; OC_FARNELL: 1755816; OC_NEWARK: 34R4512; OC_FARNELL: 1755824; OC_NEWARK: 34R4519; OC_FARNELL: 1755831; OC_NEWARK: 08R1957
footprint QFN44ML8X8
pins: 1 SEG8/DT/RX/RC7, 2 SEG17/P2D/CPS12/RD4, 3 SEG18/P1B/CPS13/RD5, 4 SEG19/P1C/CPS14/RD6, 5 SEG20/P1D/CPS15/RD7, 6 VSS (power), 7 VDD (power), 8 VDD@2 (power), 9 SEG0/INT/SRI/CPS0/AN12/RB0, 10 VLCD1/CPS1/C12IN3-/AN10/RB1, 11 VLCD2/CPS2/AN8/RB2, 12 VLCD3/P2A/CCP2/CPS3/C12IN2-/AN9/RB3, 13 NC, 14 COM0/CPS4/AN11/RB4, 15 COM1/T1G/P3A/CCP3/CPS5/AN13/RB5, 16 SEG14/ICDCLK/ICSPCLK/RB6, 17 SEG13/ICDDAT/ICSPDAT/RB7, 18 VPP/!MCLR!/RE3, 19 SEG12/VCAP/SS/SRNQ/C2OUT/C12IN0-/AN0/RA0, 20 SEG7/C12IN1-/AN1/RA1, 21 COM2/DACOUT/VREF-/C2IN+/AN2/RA2, 22 SEG15/VREF+/C1IN+/AN3/RA3, 23 RA4/C1OUT/CPS6/T0CKI/SRQ/SEG4, 24 RA5/AN4/C2OUT/CPS7/SRNQ/!SS!/VCAP/SEG5, 25 RE0/AN5/CCP3/P3A/SEG21, 26 RE1/AN6/P3B/SEG22, 27 RE2/AN7/CCP5/SEG23, 28 VDD@1 (power), 29 NC@1, 30 VSS@1 (power), 31 VSS@2 (power), 32 RA7/OSC1/CLKIN/SEG2, 33 RA6/OSC2/CLKOUT/VCAP/SEG1, 34 RC0/T1OSO/T1CKI/P2B, 35 RC1/T1OSI/CCP2/P2A, 36 RC2/CCP1/P1A/SEG3, 37 RC3/SCL/SCK/SEG6, 38 RD0/CPS8/COM3, 39 RD1/CPS9/CCP4, 40 RD2/CPS10/P2B, 41 RD3/CPS11/P2C/SEG16, 42 RC4/SDI/SDA/T1G/SEG11, 43 RC5/SDO/SEG10, 44 RC6/TX/CK/SEG9

## PIC16F193*PT
designator IC?, comment Flash-Based, 8-Bit CMOS Microcontrollers wtih LCD Driver and nanoWatt XLP Technology   Auto generated by make-symbol-device-package-bsdl.ulp Rev. 33 Source: http://ww1.microchip.com/downloads/en/DeviceDoc/41364D.pdf
MPN: PIC16F1934-I/PT; MPN: PIC16F1937-I/PT; MPN: PIC16F1939-I/PT; OC_FARNELL: 1755818; OC_NEWARK: 34R4514; OC_FARNELL: 1755826; OC_NEWARK: 34R4521; OC_FARNELL: 1755834; OC_NEWARK: 08R1959
footprint TQFP44
pins: 1 SEG8/DT/RX/RC7, 2 SEG17/P2D/CPS12/RD4, 3 SEG18/P1B/CPS13/RD5, 4 SEG19/P1C/CPS14/RD6, 5 SEG20/P1D/CPS15/RD7, 6 VSS (power), 7 VDD (power), 8 SEG0/INT/SRI/CPS0/AN12/RB0, 9 VLCD1/CPS1/C12IN3-/AN10/RB1, 10 VLCD2/CPS2/AN8/RB2, 11 VLCD3/P2A/CCP2/CPS3/C12IN2-/AN9/RB3, 12 NC, 13 NC@1, 14 COM0/CPS4/AN11/RB4, 15 COM1/T1G/P3A/CCP3/CPS5/AN13/RB5, 16 SEG14/ICDCLK/ICSPCLK/RB6, 17 SEG13/ICDDAT/ICSPDAT/RB7, 18 VPP/!MCLR!/RE3, 19 SEG12/VCAP/SS/SRNQ/C2OUT/C12IN0-/AN0/RA0, 20 SEG7/C12IN1-/AN1/RA1, 21 COM2/DACOUT/VREF-/C2IN+/AN2/RA2, 22 SEG15/VREF+/C1IN+/AN3/RA3, 23 RA4/C1OUT/CPS6/T0CKI/SRQ/SEG4, 24 RA5/AN4/C2OUT/CPS7/SRNQ/!SS!/VCAP/SEG5, 25 RE0/AN5/CCP3/P3A/SEG21, 26 RE1/AN6/P3B/SEG22, 27 RE2/AN7/CCP5/SEG23, 28 VDD@1 (power), 29 VSS@1 (power), 30 RA7/OSC1/CLKIN/SEG2, 31 RA6/OSC2/CLKOUT/VCAP/SEG1, 32 RC0/T1OSO/T1CKI/P2B, 33 NC@2, 34 NC@3, 35 RC1/T1OSI/CCP2/P2A, 36 RC2/CCP1/P1A/SEG3, 37 RC3/SCL/SCK/SEG6, 38 RD0/CPS8/COM3, 39 RD1/CPS9/CCP4, 40 RD2/CPS10/P2B, 41 RD3/CPS11/P2C/SEG16, 42 RC4/SDI/SDA/T1G/SEG11, 43 RC5/SDO/SEG10, 44 RC6/TX/CK/SEG9

## PIC16F628SS
designator IC?, comment FLASH-Based 8-Bit CMOS Microcontroller   Source: http://ww1.microchip.com/downloads/en/DeviceDoc/40300C.pdf
MPN: PIC16F628-20I/SS; MF: MICROCHIP; OC_FARNELL: 1084266; OC_NEWARK: 23C4987
footprint SS20
pins: 1 RA2/AN2/VREF, 2 RA3/AN3/CMP1, 3 RA4/TOCKI/CMP2, 4 RA5/MCLR/VPP, 5 VSS (power), 6 VSS@1 (power), 7 RB0/INT, 8 RB1/RX/DT, 9 RB2/TX/CK, 10 RB3/CCP1, 11 RB4/PGM, 12 RB5, 13 RB6/T1OSO/T1CKI/PGC, 14 RB7/T1OSI/PGD, 15 VDD (power), 16 VDD@1 (power), 17 RA6/OSC2/CLKOUT, 18 RA7/OSC1/CLKIN, 19 RA0/AN0, 20 RA1/AN1

## PIC16F676P
designator IC?, comment 14-Pin, Flash-Based 8-Bit CMOS Microcontroller   High Performance RISC CPU: * Only 35 instructions to learn - All single-cycle instructions except branches * Operating speed: - DC - 20 MHz oscillator/clock input - DC - 200 ns instruction cycle  * Internal and external oscillator options - Precision Internal 4 MHz oscillator factory calibrated to ±1% - External Oscillator support for crystals and resonators - 5?s wake-up from SLEEP, 3.0V, typical * Power saving SLEEP mode * Wide operating voltage range - 2.0V to 5.5V * Industrial and Extended temperature range * Low power Power-on Reset (POR) * Power-up Timer (PWRT) and Oscillator Start-up Timer (OST) * Brown-out Detect (BOD) * Watchdog Timer (WDT) with independent oscillator for reliable operation * Multiplexed MCLR/Input-pin * Interrupt-on-pin change * Individual programmable weak pull-ups * Programmable code protection * High Endurance FLASH/EEPROM Cell - 100,000 write FLASH endurance - 1,000,000 write EEPROM endurance - FLASH/Data EEPROM Retention: > 40 years  * Standby Current: - 1 nA @ 2.0V, typical * Operating Current: - 8.5?A @ 32 kHz, 2.0V, typical - 100?A @ 1 MHz, 2.0V, typical * Watchdog Timer Current - 300 nA @ 2.0V, typical * Timer1 oscillator current: - 4?A @ 32 kHz, 2.0V, typical  * 12 I/O pins with individual direction control * High current sink/source for direct LED drive  * Analog-to-Digital Converter module (PIC16F676): - 10-bit resolution - Programmable 8-channel input - Voltage reference input  * In-Circuit Serial ProgrammingTM (ICSPTM) via two pins    Source: http://ww1.microchip.com/downloads/en/DeviceDoc/40039E.pdf
MPN: PIC16F676-I/P; MF: MICROCHIP; OC_FARNELL: 9760512; OC_NEWARK: 54K2829
footprint DIL14
pins: 1 VDD (power), 2 OSC1/CLKIN/T1CKI/RA5, 3 T1G/OSC2/CLKOUT/AN3/RA4, 4 VPP/MCLR/RA3, 5 RC5, 6 RC4, 7 RC3/AN7, 8 RC2/AN6, 9 RC1/AN5, 10 RC0/AN4, 11 COUT/T0CKI/INT/AN2/RA2, 12 CIN-/VREF/ICSPCLK/AN1/RA1, 13 CIN+/ICSPDAT/AN0/RA0, 14 VSS (power)

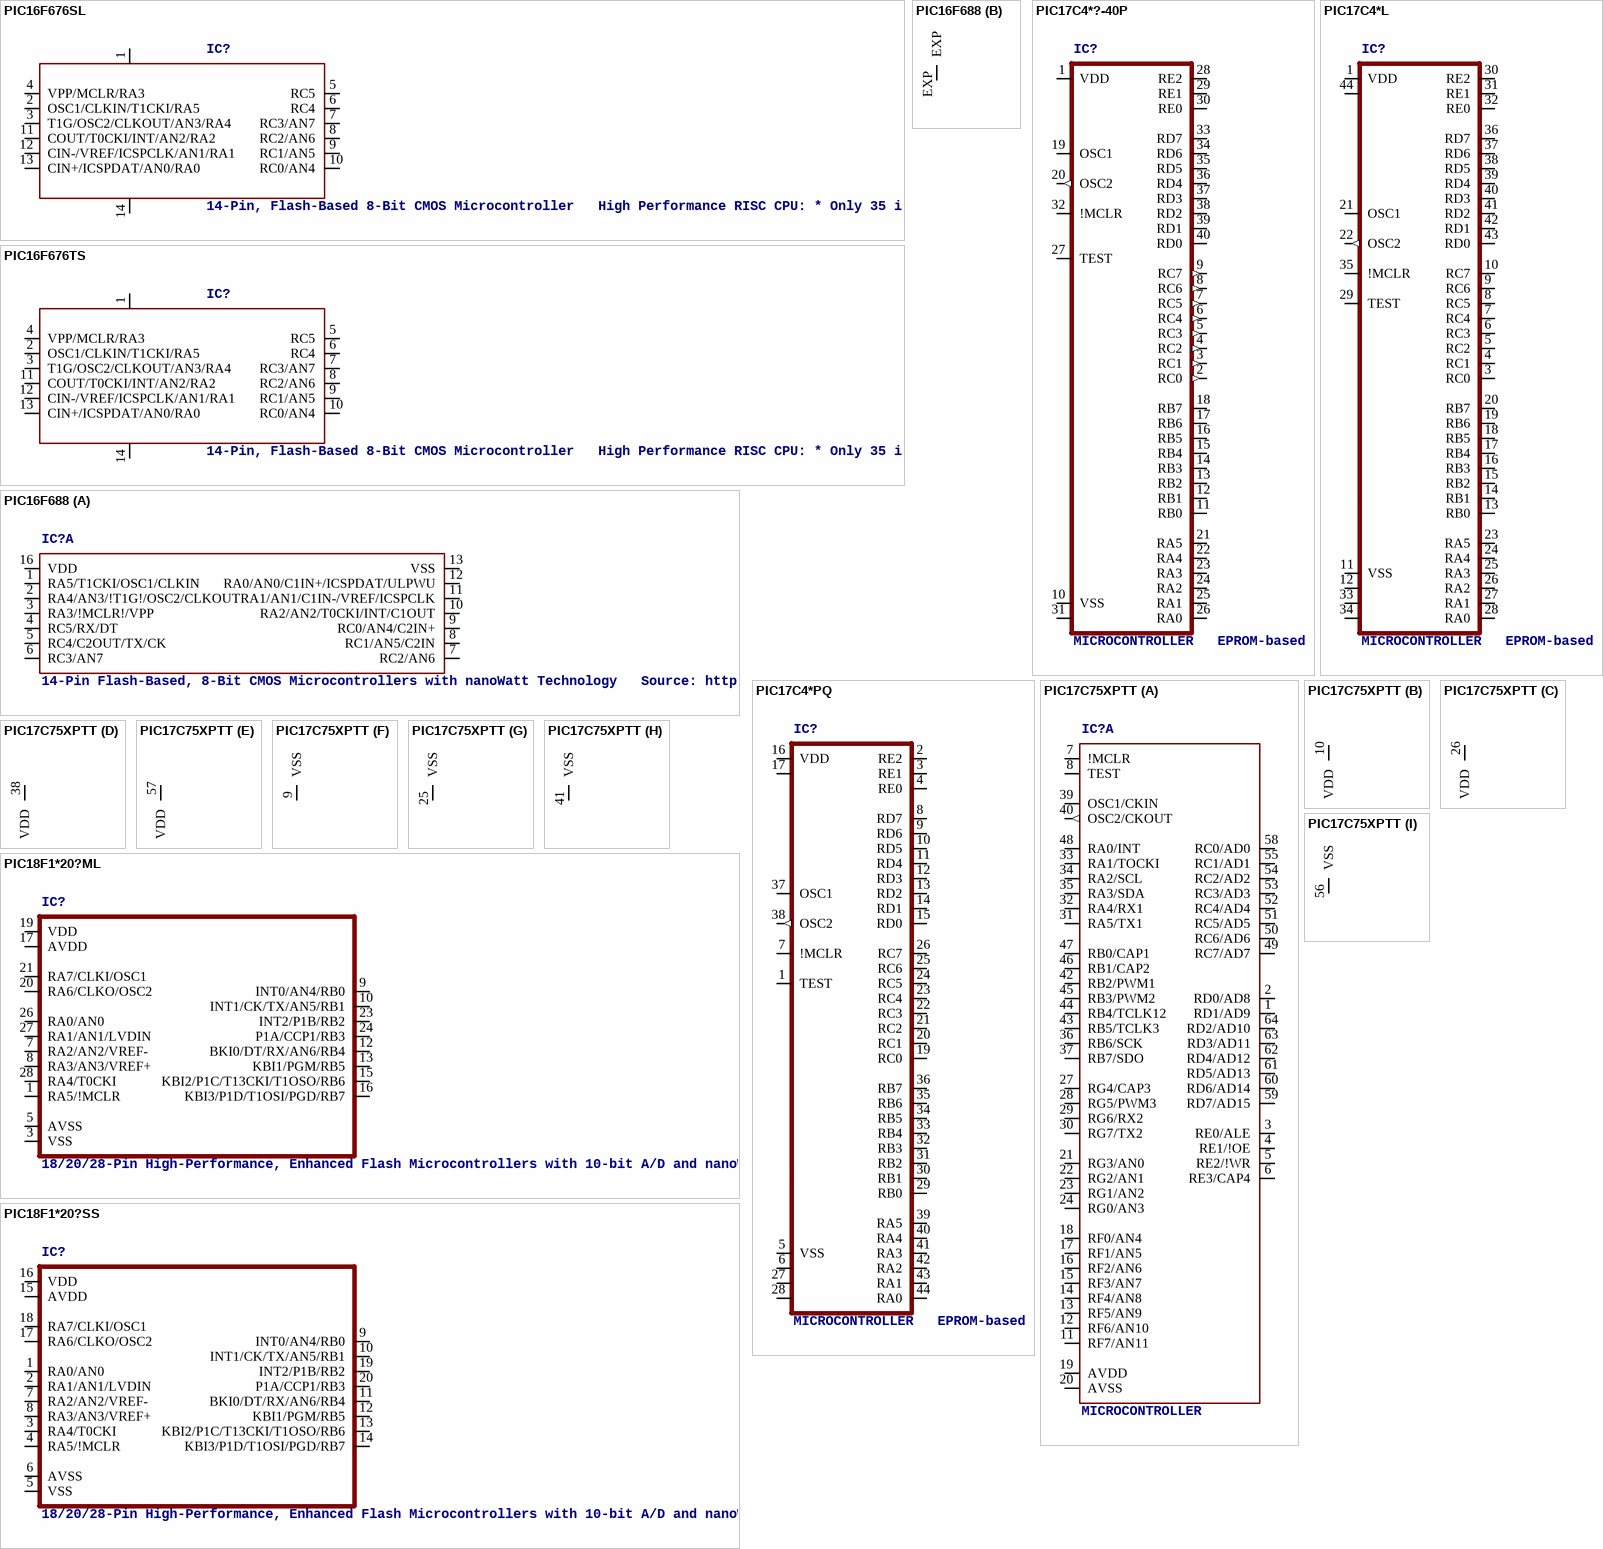
[diagram p21: symbols PIC16F676SL to PIC18F1*20?SS]

## PIC16F676SL
designator IC?, comment 14-Pin, Flash-Based 8-Bit CMOS Microcontroller   High Performance RISC CPU: * Only 35 instructions to learn - All single-cycle instructions except branches * Operating speed: - DC - 20 MHz oscillator/clock input - DC - 200 ns instruction cycle  * Internal and external oscillator options - Precision Internal 4 MHz oscillator factory calibrated to ±1% - External Oscillator support for crystals and resonators - 5?s wake-up from SLEEP, 3.0V, typical * Power saving SLEEP mode * Wide operating voltage range - 2.0V to 5.5V * Industrial and Extended temperature range * Low power Power-on Reset (POR) * Power-up Timer (PWRT) and Oscillator Start-up Timer (OST) * Brown-out Detect (BOD) * Watchdog Timer (WDT) with independent oscillator for reliable operation * Multiplexed MCLR/Input-pin * Interrupt-on-pin change * Individual programmable weak pull-ups * Programmable code protection * High Endurance FLASH/EEPROM Cell - 100,000 write FLASH endurance - 1,000,000 write EEPROM endurance - FLASH/Data EEPROM Retention: > 40 years  * Standby Current: - 1 nA @ 2.0V, typical * Operating Current: - 8.5?A @ 32 kHz, 2.0V, typical - 100?A @ 1 MHz, 2.0V, typical * Watchdog Timer Current - 300 nA @ 2.0V, typical * Timer1 oscillator current: - 4?A @ 32 kHz, 2.0V, typical  * 12 I/O pins with individual direction control * High current sink/source for direct LED drive  * Analog-to-Digital Converter module (PIC16F676): - 10-bit resolution - Programmable 8-channel input - Voltage reference input  * In-Circuit Serial ProgrammingTM (ICSPTM) via two pins    Source: http://ww1.microchip.com/downloads/en/DeviceDoc/40039E.pdf
MPN: PIC16F676-I/SL; MF: MICROCHIP; OC_FARNELL: 9760520; OC_NEWARK: 92C4557
footprint SO-14
pins: 1 VDD (power), 2 OSC1/CLKIN/T1CKI/RA5, 3 T1G/OSC2/CLKOUT/AN3/RA4, 4 VPP/MCLR/RA3, 5 RC5, 6 RC4, 7 RC3/AN7, 8 RC2/AN6, 9 RC1/AN5, 10 RC0/AN4, 11 COUT/T0CKI/INT/AN2/RA2, 12 CIN-/VREF/ICSPCLK/AN1/RA1, 13 CIN+/ICSPDAT/AN0/RA0, 14 VSS (power)

## PIC16F676TS
designator IC?, comment 14-Pin, Flash-Based 8-Bit CMOS Microcontroller   High Performance RISC CPU: * Only 35 instructions to learn - All single-cycle instructions except branches * Operating speed: - DC - 20 MHz oscillator/clock input - DC - 200 ns instruction cycle  * Internal and external oscillator options - Precision Internal 4 MHz oscillator factory calibrated to ±1% - External Oscillator support for crystals and resonators - 5?s wake-up from SLEEP, 3.0V, typical * Power saving SLEEP mode * Wide operating voltage range - 2.0V to 5.5V * Industrial and Extended temperature range * Low power Power-on Reset (POR) * Power-up Timer (PWRT) and Oscillator Start-up Timer (OST) * Brown-out Detect (BOD) * Watchdog Timer (WDT) with independent oscillator for reliable operation * Multiplexed MCLR/Input-pin * Interrupt-on-pin change * Individual programmable weak pull-ups * Programmable code protection * High Endurance FLASH/EEPROM Cell - 100,000 write FLASH endurance - 1,000,000 write EEPROM endurance - FLASH/Data EEPROM Retention: > 40 years  * Standby Current: - 1 nA @ 2.0V, typical * Operating Current: - 8.5?A @ 32 kHz, 2.0V, typical - 100?A @ 1 MHz, 2.0V, typical * Watchdog Timer Current - 300 nA @ 2.0V, typical * Timer1 oscillator current: - 4?A @ 32 kHz, 2.0V, typical  * 12 I/O pins with individual direction control * High current sink/source for direct LED drive  * Analog-to-Digital Converter module (PIC16F676): - 10-bit resolution - Programmable 8-channel input - Voltage reference input  * In-Circuit Serial ProgrammingTM (ICSPTM) via two pins    Source: http://ww1.microchip.com/downloads/en/DeviceDoc/40039E.pdf
MPN: PIC16F676-E/ST; MF: MICROCHIP; OC_FARNELL: 9760539; OC_NEWARK: 92C4552
footprint TSSOP14
pins: 1 VDD (power), 2 OSC1/CLKIN/T1CKI/RA5, 3 T1G/OSC2/CLKOUT/AN3/RA4, 4 VPP/MCLR/RA3, 5 RC5, 6 RC4, 7 RC3/AN7, 8 RC2/AN6, 9 RC1/AN5, 10 RC0/AN4, 11 COUT/T0CKI/INT/AN2/RA2, 12 CIN-/VREF/ICSPCLK/AN1/RA1, 13 CIN+/ICSPDAT/AN0/RA0, 14 VSS (power)

## PIC16F688
designator IC?, comment 14-Pin Flash-Based, 8-Bit CMOS Microcontrollers with nanoWatt Technology   Source: http://ww1.microchip.com/downloads/en/DeviceDoc/41203E.pdf
MPN: PIC16F688-I/ML; OC_FARNELL: 1579588; OC_NEWARK: 56K7280
footprint QFN16-4X4
part A pins: 1 RA5/T1CKI/OSC1/CLKIN, 2 RA4/AN3/!T1G!/OSC2/CLKOUT, 3 RA3/!MCLR!/VPP, 4 RC5/RX/DT, 5 RC4/C2OUT/TX/CK, 6 RC3/AN7, 7 RC2/AN6, 8 RC1/AN5/C2IN, 9 RC0/AN4/C2IN+, 10 RA2/AN2/T0CKI/INT/C1OUT, 11 RA1/AN1/C1IN-/VREF/ICSPCLK, 12 RA0/AN0/C1IN+/ICSPDAT/ULPWU, 13 VSS (power), 16 VDD (power)
part B pins: EXP

## PIC17C4*?-40P
designator IC?, comment MICROCONTROLLER   EPROM-based
MPN: PIC17C42A-16/P; MPN: PIC17C43-16/P; MPN: PIC17C44-33/P; MF: MICROCHIP; OC_FARNELL: 1196768; OC_NEWARK: 23C5768; OC_FARNELL: 1084356; OC_NEWARK: 63K6089; OC_FARNELL: 1084221; OC_NEWARK: 23C5919
footprint DIL40
pins: 1 VDD (power), 2 RC0 (out), 3 RC1 (out), 4 RC2 (out), 5 RC3 (out), 6 RC4 (out), 7 RC5 (out), 8 RC6 (out), 9 RC7 (out), 10 VSS (power), 11 RB0, 12 RB1, 13 RB2, 14 RB3, 15 RB4, 16 RB5, 17 RB6, 18 RB7, 19 OSC1, 20 OSC2 (out), 21 RA5, 22 RA4, 23 RA3, 24 RA2, 25 RA1, 26 RA0, 27 TEST, 28 RE2, 29 RE1, 30 RE0, 31 VSS@1 (power), 32 !MCLR, 33 RD7, 34 RD6, 35 RD5, 36 RD4, 37 RD3, 38 RD2, 39 RD1, 40 RD0

## PIC17C4*L
designator IC?, comment MICROCONTROLLER   EPROM-based
MPN: PIC17C42A-25I/L; MPN: PIC17C43-16/L; MPN: PIC17C44-16/L; MF: MICROCHIP; OC_FARNELL: unknown; OC_NEWARK: 23C5787; OC_FARNELL: 9761861; OC_NEWARK: 23C5830; OC_FARNELL: 9761918; OC_NEWARK: 69K7642
footprint PLCC-44
pins: 1 VDD (power), 2 NC, 3 RC0, 4 RC1, 5 RC2, 6 RC3, 7 RC4, 8 RC5, 9 RC6, 10 RC7, 11 VSS (power), 12 VSS@1 (power), 13 RB0, 14 RB1, 15 RB2, 16 RB3, 17 RB4, 18 RB5, 19 RB6, 20 RB7, 21 OSC1, 22 OSC2 (out), 23 RA5, 24 RA4, 25 RA3, 26 RA2, 27 RA1, 28 RA0, 29 TEST, 30 RE2, 31 RE1, 32 RE0, 33 VSS@2 (power), 34 VSS@3 (power), 35 !MCLR, 36 RD7, 37 RD6, 38 RD5, 39 RD4, 40 RD3, 41 RD2, 42 RD1, 43 RD0, 44 VDD@1 (power)

## PIC17C4*PQ
designator IC?, comment MICROCONTROLLER   EPROM-based
MPN: PIC17C42A-16/PQ; MPN: PIC17C43-33/PT; MF: MICROCHIP; OC_FARNELL: unknown; OC_NEWARK: 23C5769; OC_NEWARK: 23C5857; OC_NEWARK: unknown
footprint MQFP44-2
pins: 1 TEST, 2 RE2, 3 RE1, 4 RE0, 5 VSS (power), 6 VSS@1 (power), 7 !MCLR, 8 RD7, 9 RD6, 10 RD5, 11 RD4, 12 RD3, 13 RD2, 14 RD1, 15 RD0, 16 VDD (power), 17 VDD@1 (power), 18 NC, 19 RC0, 20 RC1, 21 RC2, 22 RC3, 23 RC4, 24 RC5, 25 RC6, 26 RC7, 27 VSS@2 (power), 28 VSS@3 (power), 29 RB0, 30 RB1, 31 RB2, 32 RB3, 33 RB4, 34 RB5, 35 RB6, 36 RB7, 37 OSC1, 38 OSC2 (out), 39 RA5, 40 RA4, 41 RA3, 42 RA2, 43 RA1, 44 RA0

## PIC17C75XPTT
designator IC?, comment MICROCONTROLLER
MPN: PIC17C756A-33I/PT; MF: MICROCHIP; OC_FARNELL: unknown; OC_NEWARK: 23C5980
footprint TQFP64-10X10X1MM
part A pins: 1 RD1/AD9, 2 RD0/AD8, 3 RE0/ALE, 4 RE1/!OE, 5 RE2/!WR, 6 RE3/CAP4, 7 !MCLR, 8 TEST, 11 RF7/AN11, 12 RF6/AN10, 13 RF5/AN9, 14 RF4/AN8, 15 RF3/AN7, 16 RF2/AN6, 17 RF1/AN5, 18 RF0/AN4, 19 AVDD (power), 20 AVSS (power), 21 RG3/AN0, 22 RG2/AN1, 23 RG1/AN2, 24 RG0/AN3, 27 RG4/CAP3, 28 RG5/PWM3, 29 RG6/RX2, 30 RG7/TX2, 31 RA5/TX1, 32 RA4/RX1, 33 RA1/TOCKI, 34 RA2/SCL, 35 RA3/SDA, 36 RB6/SCK, 37 RB7/SDO, 39 OSC1/CKIN, 40 OSC2/CKOUT (out), 42 RB2/PWM1, 43 RB5/TCLK3, 44 RB4/TCLK12, 45 RB3/PWM2, 46 RB1/CAP2, 47 RB0/CAP1, 48 RA0/INT, 49 RC7/AD7, 50 RC6/AD6, 51 RC5/AD5, 52 RC4/AD4, 53 RC3/AD3, 54 RC2/AD2, 55 RC1/AD1, 58 RC0/AD0, 59 RD7/AD15, 60 RD6/AD14, 61 RD5/AD13, 62 RD4/AD12, 63 RD3/AD11, 64 RD2/AD10
part B pins: 10 VDD (power)
part C pins: 26 VDD (power)
part D pins: 38 VDD (power)
part E pins: 57 VDD (power)
part F pins: 9 VSS (power)
part G pins: 25 VSS (power)
part H pins: 41 VSS (power)
part I pins: 56 VSS (power)

## PIC18F1*20?ML
designator IC?, comment 18/20/28-Pin High-Performance, Enhanced Flash Microcontrollers with 10-bit A/D and nanoWatt Technology   Source: ww1.microchip.com/downloads/en/DeviceDoc/39605c.pdf
MPN: PIC18F1220-I/ML; MPN: PIC18F1320-I/ML; MF: MICROCHIP; OC_FARNELL: unknown; OC_NEWARK: 92C4996; OC_FARNELL: 9762000; OC_NEWARK: 92C5008
footprint QFN28
pins: 1 RA5/!MCLR, 3 VSS (power), 5 AVSS (power), 7 RA2/AN2/VREF-, 8 RA3/AN3/VREF+, 9 INT0/AN4/RB0, 10 INT1/CK/TX/AN5/RB1, 12 BKI0/DT/RX/AN6/RB4, 13 KBI1/PGM/RB5, 15 KBI2/P1C/T13CKI/T1OSO/RB6, 16 KBI3/P1D/T1OSI/PGD/RB7, 17 AVDD (power), 19 VDD (power), 20 RA6/CLKO/OSC2, 21 RA7/CLKI/OSC1, 23 INT2/P1B/RB2, 24 P1A/CCP1/RB3, 26 RA0/AN0, 27 RA1/AN1/LVDIN, 28 RA4/T0CKI

## PIC18F1*20?SS
designator IC?, comment 18/20/28-Pin High-Performance, Enhanced Flash Microcontrollers with 10-bit A/D and nanoWatt Technology   Source: ww1.microchip.com/downloads/en/DeviceDoc/39605c.pdf
MPN: PIC18F1220-E/SS; MPN: PIC18F1320-I/SS; MF: MICROCHIP; OC_FARNELL: 9761993; OC_NEWARK: 92C4995; OC_FARNELL: 1084333; OC_NEWARK: 92C5009
footprint SSOP20
pins: 1 RA0/AN0, 2 RA1/AN1/LVDIN, 3 RA4/T0CKI, 4 RA5/!MCLR, 5 VSS (power), 6 AVSS (power), 7 RA2/AN2/VREF-, 8 RA3/AN3/VREF+, 9 INT0/AN4/RB0, 10 INT1/CK/TX/AN5/RB1, 11 BKI0/DT/RX/AN6/RB4, 12 KBI1/PGM/RB5, 13 KBI2/P1C/T13CKI/T1OSO/RB6, 14 KBI3/P1D/T1OSI/PGD/RB7, 15 AVDD (power), 16 VDD (power), 17 RA6/CLKO/OSC2, 18 RA7/CLKI/OSC1, 19 INT2/P1B/RB2, 20 P1A/CCP1/RB3

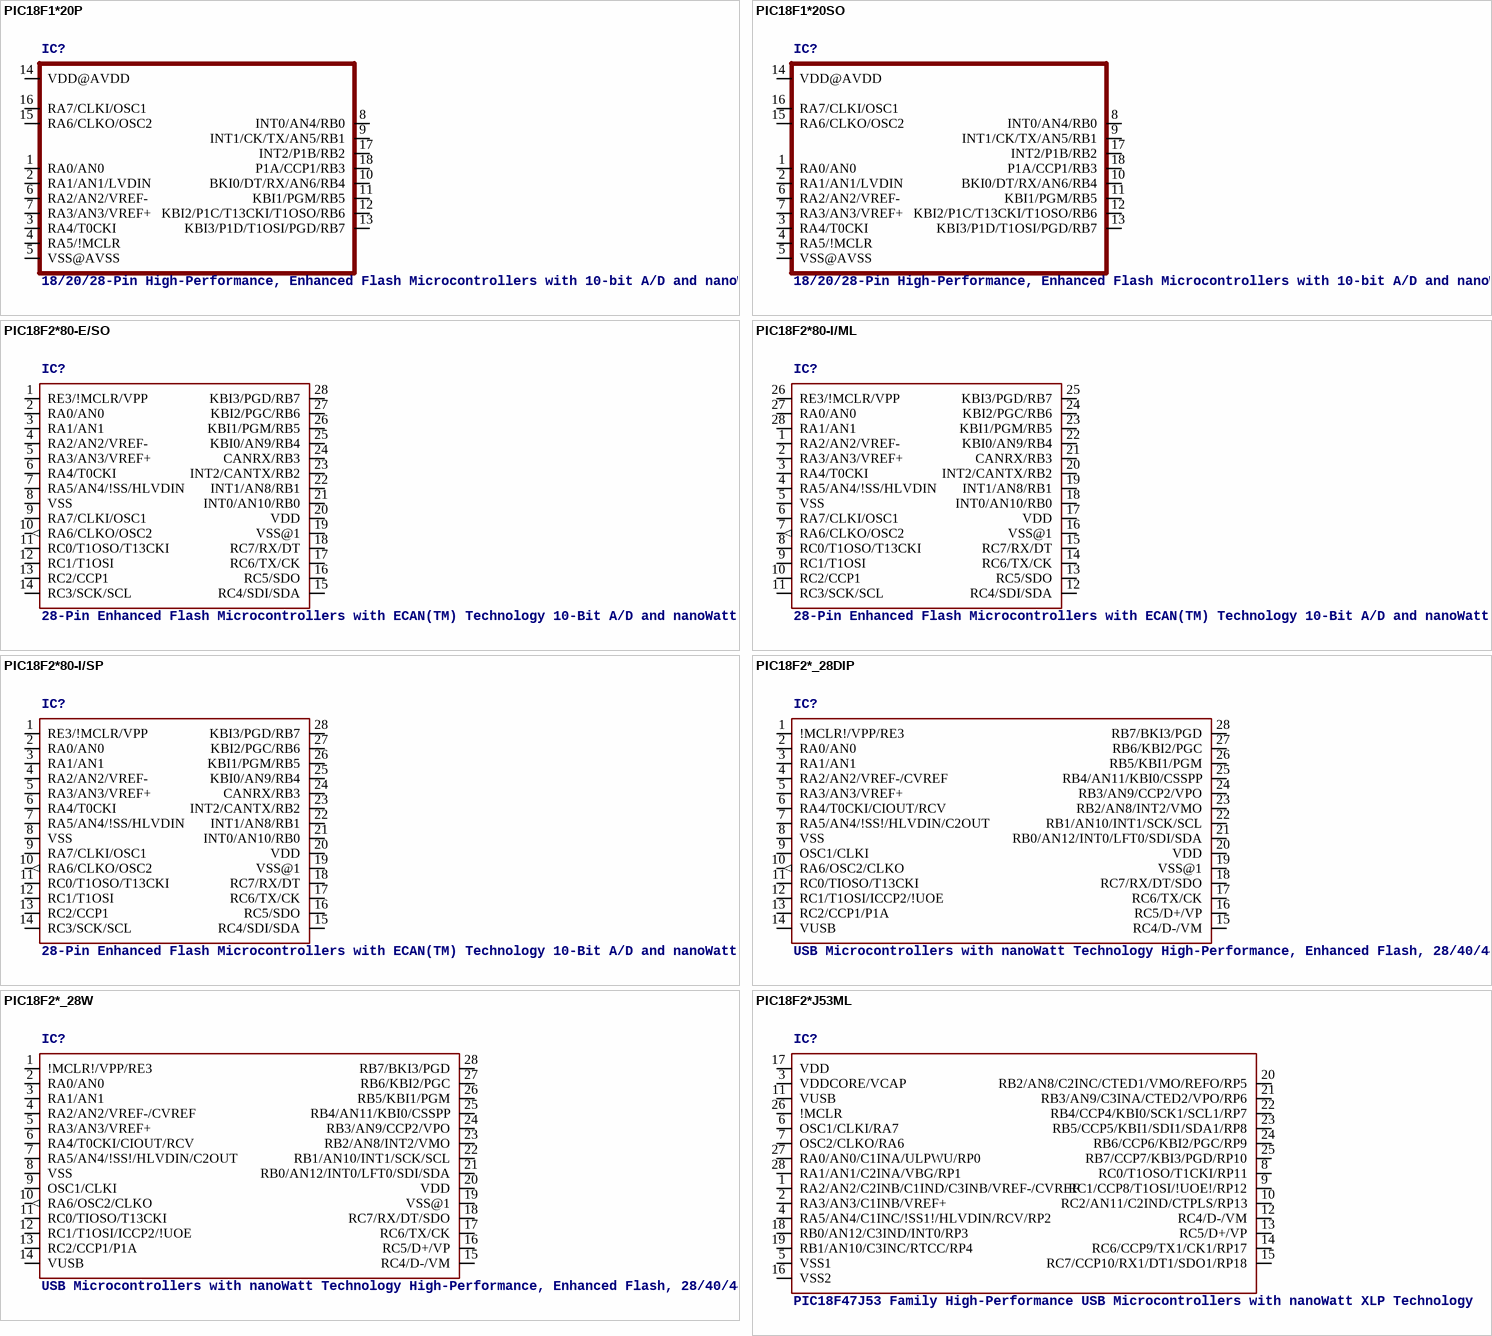
[diagram p22: symbols PIC18F1*20P to PIC18F2*J53ML]

## PIC18F1*20P
designator IC?, comment 18/20/28-Pin High-Performance, Enhanced Flash Microcontrollers with 10-bit A/D and nanoWatt Technology   Source: ww1.microchip.com/downloads/en/DeviceDoc/39605c.pdf
MPN: PIC18F1220-I/P; MF: MICROCHIP; OC_FARNELL: 9761977; OC_NEWARK: 92C2429
footprint DIL18
pins: 1 RA0/AN0, 2 RA1/AN1/LVDIN, 3 RA4/T0CKI, 4 RA5/!MCLR, 5 VSS@AVSS (power), 6 RA2/AN2/VREF-, 7 RA3/AN3/VREF+, 8 INT0/AN4/RB0, 9 INT1/CK/TX/AN5/RB1, 10 BKI0/DT/RX/AN6/RB4, 11 KBI1/PGM/RB5, 12 KBI2/P1C/T13CKI/T1OSO/RB6, 13 KBI3/P1D/T1OSI/PGD/RB7, 14 VDD@AVDD (power), 15 RA6/CLKO/OSC2, 16 RA7/CLKI/OSC1, 17 INT2/P1B/RB2, 18 P1A/CCP1/RB3

## PIC18F1*20SO
designator IC?, comment 18/20/28-Pin High-Performance, Enhanced Flash Microcontrollers with 10-bit A/D and nanoWatt Technology   Source: ww1.microchip.com/downloads/en/DeviceDoc/39605c.pdf
MPN: PIC18F1220-I/SO; MF: MICROCHIP; OC_FARNELL: 9761985; OC_NEWARK: 92C2430
footprint SO-18W
pins: 1 RA0/AN0, 2 RA1/AN1/LVDIN, 3 RA4/T0CKI, 4 RA5/!MCLR, 5 VSS@AVSS (power), 6 RA2/AN2/VREF-, 7 RA3/AN3/VREF+, 8 INT0/AN4/RB0, 9 INT1/CK/TX/AN5/RB1, 10 BKI0/DT/RX/AN6/RB4, 11 KBI1/PGM/RB5, 12 KBI2/P1C/T13CKI/T1OSO/RB6, 13 KBI3/P1D/T1OSI/PGD/RB7, 14 VDD@AVDD (power), 15 RA6/CLKO/OSC2, 16 RA7/CLKI/OSC1, 17 INT2/P1B/RB2, 18 P1A/CCP1/RB3

## PIC18F2*80-E/SO
designator IC?, comment 28-Pin Enhanced Flash Microcontrollers with ECAN(TM) Technology 10-Bit A/D and nanoWatt Technology   Source: http://www.microchip.com .. 39637a.pdf
MPN: PIC18F2580-I/SO; MF: MICROCHIP; OC_FARNELL: 9321284; OC_NEWARK: 71J7243
footprint SO28W
pins: 1 RE3/!MCLR/VPP, 2 RA0/AN0, 3 RA1/AN1, 4 RA2/AN2/VREF-, 5 RA3/AN3/VREF+, 6 RA4/T0CKI, 7 RA5/AN4/!SS/HLVDIN, 8 VSS (power), 9 RA7/CLKI/OSC1, 10 RA6/CLKO/OSC2 (out), 11 RC0/T1OSO/T13CKI, 12 RC1/T1OSI, 13 RC2/CCP1, 14 RC3/SCK/SCL, 15 RC4/SDI/SDA, 16 RC5/SDO, 17 RC6/TX/CK, 18 RC7/RX/DT, 19 VSS@1 (power), 20 VDD (power), 21 INT0/AN10/RB0, 22 INT1/AN8/RB1, 23 INT2/CANTX/RB2, 24 CANRX/RB3, 25 KBI0/AN9/RB4, 26 KBI1/PGM/RB5, 27 KBI2/PGC/RB6, 28 KBI3/PGD/RB7

## PIC18F2*80-I/ML
designator IC?, comment 28-Pin Enhanced Flash Microcontrollers with ECAN(TM) Technology 10-Bit A/D and nanoWatt Technology   Source: http://www.microchip.com .. 39637a.pdf
MPN: PIC18F2480-I/ML; MPN: PIC18F2580-I/ML; MF: MICROCHIP; OC_FARNELL: 1556179; OC_NEWARK: 71J7235; OC_FARNELL: 1556180; OC_NEWARK: 71J7242
footprint QFN28-ML_6X6MM
pins: 1 RA2/AN2/VREF-, 2 RA3/AN3/VREF+, 3 RA4/T0CKI, 4 RA5/AN4/!SS/HLVDIN, 5 VSS (power), 6 RA7/CLKI/OSC1, 7 RA6/CLKO/OSC2 (out), 8 RC0/T1OSO/T13CKI, 9 RC1/T1OSI, 10 RC2/CCP1, 11 RC3/SCK/SCL, 12 RC4/SDI/SDA, 13 RC5/SDO, 14 RC6/TX/CK, 15 RC7/RX/DT, 16 VSS@1 (power), 17 VDD (power), 18 INT0/AN10/RB0, 19 INT1/AN8/RB1, 20 INT2/CANTX/RB2, 21 CANRX/RB3, 22 KBI0/AN9/RB4, 23 KBI1/PGM/RB5, 24 KBI2/PGC/RB6, 25 KBI3/PGD/RB7, 26 RE3/!MCLR/VPP, 27 RA0/AN0, 28 RA1/AN1

## PIC18F2*80-I/SP
designator IC?, comment 28-Pin Enhanced Flash Microcontrollers with ECAN(TM) Technology 10-Bit A/D and nanoWatt Technology   Source: http://www.microchip.com .. 39637a.pdf
MPN: PIC18F2480-I/SP; MPN: PIC18F2580-I/SP; MF: MICROCHIP; OC_FARNELL: 9321217; OC_NEWARK: 71J7237; OC_FARNELL: 9321276; OC_NEWARK: 71J7244
footprint DIL28-3
pins: 1 RE3/!MCLR/VPP, 2 RA0/AN0, 3 RA1/AN1, 4 RA2/AN2/VREF-, 5 RA3/AN3/VREF+, 6 RA4/T0CKI, 7 RA5/AN4/!SS/HLVDIN, 8 VSS (power), 9 RA7/CLKI/OSC1, 10 RA6/CLKO/OSC2 (out), 11 RC0/T1OSO/T13CKI, 12 RC1/T1OSI, 13 RC2/CCP1, 14 RC3/SCK/SCL, 15 RC4/SDI/SDA, 16 RC5/SDO, 17 RC6/TX/CK, 18 RC7/RX/DT, 19 VSS@1 (power), 20 VDD (power), 21 INT0/AN10/RB0, 22 INT1/AN8/RB1, 23 INT2/CANTX/RB2, 24 CANRX/RB3, 25 KBI0/AN9/RB4, 26 KBI1/PGM/RB5, 27 KBI2/PGC/RB6, 28 KBI3/PGD/RB7

## PIC18F2*_28DIP
designator IC?, comment USB Microcontrollers with nanoWatt Technology High-Performance, Enhanced Flash, 28/40/44-Pin,    Source: http://ww1.microchip.com/downloads/en/devicedoc/39632c.pdf
MPN: PIC18F2455-I/SP; MPN: PIC18F2550-I/SP; MF: MICROCHIP; OC_FARNELL: 1579600; OC_NEWARK: 01M8485; OC_FARNELL: 1523822; OC_NEWARK: 80K6054
footprint DIL28-3
pins: 1 !MCLR!/VPP/RE3, 2 RA0/AN0, 3 RA1/AN1, 4 RA2/AN2/VREF-/CVREF, 5 RA3/AN3/VREF+, 6 RA4/T0CKI/CIOUT/RCV, 7 RA5/AN4/!SS!/HLVDIN/C2OUT, 8 VSS (power), 9 OSC1/CLKI, 10 RA6/OSC2/CLKO (out), 11 RC0/TIOSO/T13CKI, 12 RC1/T1OSI/ICCP2/!UOE, 13 RC2/CCP1/P1A, 14 VUSB, 15 RC4/D-/VM, 16 RC5/D+/VP, 17 RC6/TX/CK, 18 RC7/RX/DT/SDO, 19 VSS@1 (power), 20 VDD (power), 21 RB0/AN12/INT0/LFT0/SDI/SDA, 22 RB1/AN10/INT1/SCK/SCL, 23 RB2/AN8/INT2/VMO, 24 RB3/AN9/CCP2/VPO, 25 RB4/AN11/KBI0/CSSPP, 26 RB5/KBI1/PGM, 27 RB6/KBI2/PGC, 28 RB7/BKI3/PGD

## PIC18F2*_28W
designator IC?, comment USB Microcontrollers with nanoWatt Technology High-Performance, Enhanced Flash, 28/40/44-Pin,    Source: http://ww1.microchip.com/downloads/en/devicedoc/39632c.pdf
MPN: PIC18F2455-I/SO; MPN: PIC18F2550-I/SO; MF: MICROCHIP; OC_FARNELL: 1579598; OC_NEWARK: 64J3768; OC_FARNELL: 9321268; OC_NEWARK: 73K1297
footprint SO28W
pins: 1 !MCLR!/VPP/RE3, 2 RA0/AN0, 3 RA1/AN1, 4 RA2/AN2/VREF-/CVREF, 5 RA3/AN3/VREF+, 6 RA4/T0CKI/CIOUT/RCV, 7 RA5/AN4/!SS!/HLVDIN/C2OUT, 8 VSS (power), 9 OSC1/CLKI, 10 RA6/OSC2/CLKO (out), 11 RC0/TIOSO/T13CKI, 12 RC1/T1OSI/ICCP2/!UOE, 13 RC2/CCP1/P1A, 14 VUSB, 15 RC4/D-/VM, 16 RC5/D+/VP, 17 RC6/TX/CK, 18 RC7/RX/DT/SDO, 19 VSS@1 (power), 20 VDD (power), 21 RB0/AN12/INT0/LFT0/SDI/SDA, 22 RB1/AN10/INT1/SCK/SCL, 23 RB2/AN8/INT2/VMO, 24 RB3/AN9/CCP2/VPO, 25 RB4/AN11/KBI0/CSSPP, 26 RB5/KBI1/PGM, 27 RB6/KBI2/PGC, 28 RB7/BKI3/PGD

## PIC18F2*J53ML
designator IC?, comment PIC18F47J53 Family High-Performance USB Microcontrollers with nanoWatt XLP Technology   Source:  Data sheet
MPN: PIC18F26J53-I/ML; MPN: PIC18F27J53-I/ML; OC_FARNELL: unknown; OC_NEWARK: 63R7829; OC_FARNELL: 1814994; OC_NEWARK: 63R7837
footprint QFN28-ML_6X6MM
pins: 1 RA2/AN2/C2INB/C1IND/C3INB/VREF-/CVREF, 2 RA3/AN3/C1INB/VREF+, 3 VDDCORE/VCAP, 4 RA5/AN4/C1INC/!SS1!/HLVDIN/RCV/RP2, 5 VSS1, 6 OSC1/CLKI/RA7, 7 OSC2/CLKO/RA6, 8 RC0/T1OSO/T1CKI/RP11, 9 RC1/CCP8/T1OSI/!UOE!/RP12, 10 RC2/AN11/C2IND/CTPLS/RP13, 11 VUSB, 12 RC4/D-/VM, 13 RC5/D+/VP, 14 RC6/CCP9/TX1/CK1/RP17, 15 RC7/CCP10/RX1/DT1/SDO1/RP18, 16 VSS2, 17 VDD, 18 RB0/AN12/C3IND/INT0/RP3, 19 RB1/AN10/C3INC/RTCC/RP4, 20 RB2/AN8/C2INC/CTED1/VMO/REFO/RP5, 21 RB3/AN9/C3INA/CTED2/VPO/RP6, 22 RB4/CCP4/KBI0/SCK1/SCL1/RP7, 23 RB5/CCP5/KBI1/SDI1/SDA1/RP8, 24 RB6/CCP6/KBI2/PGC/RP9, 25 RB7/CCP7/KBI3/PGD/RP10, 26 !MCLR, 27 RA0/AN0/C1INA/ULPWU/RP0, 28 RA1/AN1/C2INA/VBG/RP1

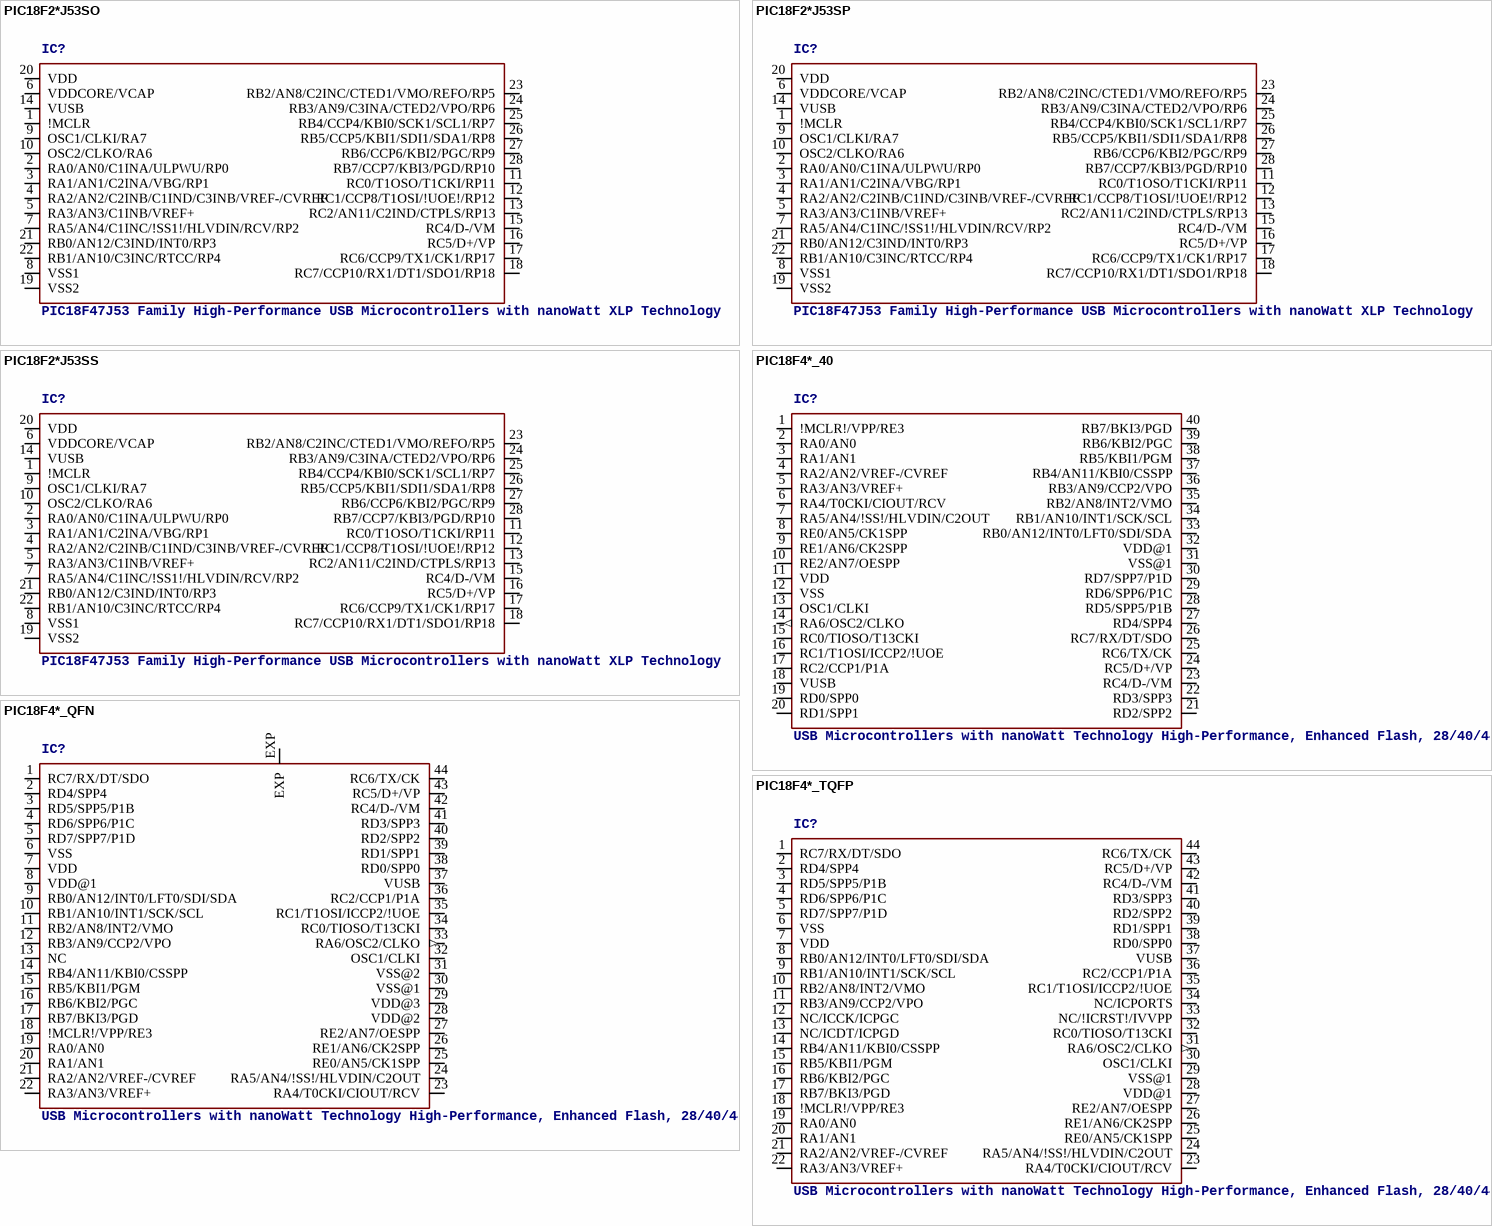
[diagram p23: symbols PIC18F2*J53SO to PIC18F4*_TQFP]

## PIC18F2*J53SO
designator IC?, comment PIC18F47J53 Family High-Performance USB Microcontrollers with nanoWatt XLP Technology   Source:  Data sheet
MPN: PIC18F26J53-I/SO; MPN: PIC18F27J53-I/SO; OC_FARNELL: unknown; OC_NEWARK: 63R7830; OC_NEWARK: 63R7838
footprint SO28W
pins: 1 !MCLR, 2 RA0/AN0/C1INA/ULPWU/RP0, 3 RA1/AN1/C2INA/VBG/RP1, 4 RA2/AN2/C2INB/C1IND/C3INB/VREF-/CVREF, 5 RA3/AN3/C1INB/VREF+, 6 VDDCORE/VCAP, 7 RA5/AN4/C1INC/!SS1!/HLVDIN/RCV/RP2, 8 VSS1, 9 OSC1/CLKI/RA7, 10 OSC2/CLKO/RA6, 11 RC0/T1OSO/T1CKI/RP11, 12 RC1/CCP8/T1OSI/!UOE!/RP12, 13 RC2/AN11/C2IND/CTPLS/RP13, 14 VUSB, 15 RC4/D-/VM, 16 RC5/D+/VP, 17 RC6/CCP9/TX1/CK1/RP17, 18 RC7/CCP10/RX1/DT1/SDO1/RP18, 19 VSS2, 20 VDD, 21 RB0/AN12/C3IND/INT0/RP3, 22 RB1/AN10/C3INC/RTCC/RP4, 23 RB2/AN8/C2INC/CTED1/VMO/REFO/RP5, 24 RB3/AN9/C3INA/CTED2/VPO/RP6, 25 RB4/CCP4/KBI0/SCK1/SCL1/RP7, 26 RB5/CCP5/KBI1/SDI1/SDA1/RP8, 27 RB6/CCP6/KBI2/PGC/RP9, 28 RB7/CCP7/KBI3/PGD/RP10

## PIC18F2*J53SP
designator IC?, comment PIC18F47J53 Family High-Performance USB Microcontrollers with nanoWatt XLP Technology   Source:  Data sheet
MPN: PIC18F26J53-I/SP; MPN: PIC18F27J53-I/SP; OC_FARNELL: unknown; OC_NEWARK: 63R7831; OC_NEWARK: 63R7839
footprint DIL28-3
pins: 1 !MCLR, 2 RA0/AN0/C1INA/ULPWU/RP0, 3 RA1/AN1/C2INA/VBG/RP1, 4 RA2/AN2/C2INB/C1IND/C3INB/VREF-/CVREF, 5 RA3/AN3/C1INB/VREF+, 6 VDDCORE/VCAP, 7 RA5/AN4/C1INC/!SS1!/HLVDIN/RCV/RP2, 8 VSS1, 9 OSC1/CLKI/RA7, 10 OSC2/CLKO/RA6, 11 RC0/T1OSO/T1CKI/RP11, 12 RC1/CCP8/T1OSI/!UOE!/RP12, 13 RC2/AN11/C2IND/CTPLS/RP13, 14 VUSB, 15 RC4/D-/VM, 16 RC5/D+/VP, 17 RC6/CCP9/TX1/CK1/RP17, 18 RC7/CCP10/RX1/DT1/SDO1/RP18, 19 VSS2, 20 VDD, 21 RB0/AN12/C3IND/INT0/RP3, 22 RB1/AN10/C3INC/RTCC/RP4, 23 RB2/AN8/C2INC/CTED1/VMO/REFO/RP5, 24 RB3/AN9/C3INA/CTED2/VPO/RP6, 25 RB4/CCP4/KBI0/SCK1/SCL1/RP7, 26 RB5/CCP5/KBI1/SDI1/SDA1/RP8, 27 RB6/CCP6/KBI2/PGC/RP9, 28 RB7/CCP7/KBI3/PGD/RP10

## PIC18F2*J53SS
designator IC?, comment PIC18F47J53 Family High-Performance USB Microcontrollers with nanoWatt XLP Technology   Source:  Data sheet
OC_FARNELL: unknown; OC_NEWARK: unknown
footprint SSOP28
pins: 1 !MCLR, 2 RA0/AN0/C1INA/ULPWU/RP0, 3 RA1/AN1/C2INA/VBG/RP1, 4 RA2/AN2/C2INB/C1IND/C3INB/VREF-/CVREF, 5 RA3/AN3/C1INB/VREF+, 6 VDDCORE/VCAP, 7 RA5/AN4/C1INC/!SS1!/HLVDIN/RCV/RP2, 8 VSS1, 9 OSC1/CLKI/RA7, 10 OSC2/CLKO/RA6, 11 RC0/T1OSO/T1CKI/RP11, 12 RC1/CCP8/T1OSI/!UOE!/RP12, 13 RC2/AN11/C2IND/CTPLS/RP13, 14 VUSB, 15 RC4/D-/VM, 16 RC5/D+/VP, 17 RC6/CCP9/TX1/CK1/RP17, 18 RC7/CCP10/RX1/DT1/SDO1/RP18, 19 VSS2, 20 VDD, 21 RB0/AN12/C3IND/INT0/RP3, 22 RB1/AN10/C3INC/RTCC/RP4, 23 RB2/AN8/C2INC/CTED1/VMO/REFO/RP5, 24 RB3/AN9/C3INA/CTED2/VPO/RP6, 25 RB4/CCP4/KBI0/SCK1/SCL1/RP7, 26 RB5/CCP5/KBI1/SDI1/SDA1/RP8, 27 RB6/CCP6/KBI2/PGC/RP9, 28 RB7/CCP7/KBI3/PGD/RP10

## PIC18F4*_40
designator IC?, comment USB Microcontrollers with nanoWatt Technology High-Performance, Enhanced Flash, 28/40/44-Pin,    Source: http://ww1.microchip.com/downloads/en/devicedoc/39632c.pdf
MPN: PIC18F4455-I/P; MPN: PIC18F4550-I/P; MF: MICROCHIP; OC_FARNELL: 9321314; OC_NEWARK: 05K2028; OC_FARNELL: 9321357; OC_NEWARK: 74K8623
footprint DIL40
pins: 1 !MCLR!/VPP/RE3, 2 RA0/AN0, 3 RA1/AN1, 4 RA2/AN2/VREF-/CVREF, 5 RA3/AN3/VREF+, 6 RA4/T0CKI/CIOUT/RCV, 7 RA5/AN4/!SS!/HLVDIN/C2OUT, 8 RE0/AN5/CK1SPP, 9 RE1/AN6/CK2SPP, 10 RE2/AN7/OESPP, 11 VDD (power), 12 VSS (power), 13 OSC1/CLKI, 14 RA6/OSC2/CLKO (out), 15 RC0/TIOSO/T13CKI, 16 RC1/T1OSI/ICCP2/!UOE, 17 RC2/CCP1/P1A, 18 VUSB, 19 RD0/SPP0, 20 RD1/SPP1, 21 RD2/SPP2, 22 RD3/SPP3, 23 RC4/D-/VM, 24 RC5/D+/VP, 25 RC6/TX/CK, 26 RC7/RX/DT/SDO, 27 RD4/SPP4, 28 RD5/SPP5/P1B, 29 RD6/SPP6/P1C, 30 RD7/SPP7/P1D, 31 VSS@1 (power), 32 VDD@1 (power), 33 RB0/AN12/INT0/LFT0/SDI/SDA, 34 RB1/AN10/INT1/SCK/SCL, 35 RB2/AN8/INT2/VMO, 36 RB3/AN9/CCP2/VPO, 37 RB4/AN11/KBI0/CSSPP, 38 RB5/KBI1/PGM, 39 RB6/KBI2/PGC, 40 RB7/BKI3/PGD

## PIC18F4*_QFN
designator IC?, comment USB Microcontrollers with nanoWatt Technology High-Performance, Enhanced Flash, 28/40/44-Pin,    Source: http://ww1.microchip.com/downloads/en/devicedoc/39632c.pdf
MPN: PIC18F4455T-I/ML; MPN: PIC18F4550-I/ML; MF: MICROCHIP; OC_FARNELL: 9321314; OC_NEWARK: 08J9629; OC_FARNELL: 1292276; OC_NEWARK: 08J9631
footprint QFN44ML8X8
pins: 1 RC7/RX/DT/SDO, 2 RD4/SPP4, 3 RD5/SPP5/P1B, 4 RD6/SPP6/P1C, 5 RD7/SPP7/P1D, 6 VSS (power), 7 VDD (power), 8 VDD@1 (power), 9 RB0/AN12/INT0/LFT0/SDI/SDA, 10 RB1/AN10/INT1/SCK/SCL, 11 RB2/AN8/INT2/VMO, 12 RB3/AN9/CCP2/VPO, 13 NC, 14 RB4/AN11/KBI0/CSSPP, 15 RB5/KBI1/PGM, 16 RB6/KBI2/PGC, 17 RB7/BKI3/PGD, 18 !MCLR!/VPP/RE3, 19 RA0/AN0, 20 RA1/AN1, 21 RA2/AN2/VREF-/CVREF, 22 RA3/AN3/VREF+, 23 RA4/T0CKI/CIOUT/RCV, 24 RA5/AN4/!SS!/HLVDIN/C2OUT, 25 RE0/AN5/CK1SPP, 26 RE1/AN6/CK2SPP, 27 RE2/AN7/OESPP, 28 VDD@2 (power), 29 VDD@3 (power), 30 VSS@1 (power), 31 VSS@2 (power), 32 OSC1/CLKI, 33 RA6/OSC2/CLKO (out), 34 RC0/TIOSO/T13CKI, 35 RC1/T1OSI/ICCP2/!UOE, 36 RC2/CCP1/P1A, 37 VUSB, 38 RD0/SPP0, 39 RD1/SPP1, 40 RD2/SPP2, 41 RD3/SPP3, 42 RC4/D-/VM, 43 RC5/D+/VP, 44 RC6/TX/CK, EXP

## PIC18F4*_TQFP
designator IC?, comment USB Microcontrollers with nanoWatt Technology High-Performance, Enhanced Flash, 28/40/44-Pin,    Source: http://ww1.microchip.com/downloads/en/devicedoc/39632c.pdf
MPN: PIC18F4455-I/PT; MPN: PIC18F4550-I/PT; MF: MICROCHIP; OC_FARNELL: 9321322; OC_NEWARK: 08J9628; OC_FARNELL: 9321365; OC_NEWARK: 08J9633
footprint TQFP44
pins: 1 RC7/RX/DT/SDO, 2 RD4/SPP4, 3 RD5/SPP5/P1B, 4 RD6/SPP6/P1C, 5 RD7/SPP7/P1D, 6 VSS (power), 7 VDD (power), 8 RB0/AN12/INT0/LFT0/SDI/SDA, 9 RB1/AN10/INT1/SCK/SCL, 10 RB2/AN8/INT2/VMO, 11 RB3/AN9/CCP2/VPO, 12 NC/ICCK/ICPGC, 13 NC/ICDT/ICPGD, 14 RB4/AN11/KBI0/CSSPP, 15 RB5/KBI1/PGM, 16 RB6/KBI2/PGC, 17 RB7/BKI3/PGD, 18 !MCLR!/VPP/RE3, 19 RA0/AN0, 20 RA1/AN1, 21 RA2/AN2/VREF-/CVREF, 22 RA3/AN3/VREF+, 23 RA4/T0CKI/CIOUT/RCV, 24 RA5/AN4/!SS!/HLVDIN/C2OUT, 25 RE0/AN5/CK1SPP, 26 RE1/AN6/CK2SPP, 27 RE2/AN7/OESPP, 28 VDD@1 (power), 29 VSS@1 (power), 30 OSC1/CLKI, 31 RA6/OSC2/CLKO (out), 32 RC0/TIOSO/T13CKI, 33 NC/!ICRST!/IVVPP, 34 NC/ICPORTS, 35 RC1/T1OSI/ICCP2/!UOE, 36 RC2/CCP1/P1A, 37 VUSB, 38 RD0/SPP0, 39 RD1/SPP1, 40 RD2/SPP2, 41 RD3/SPP3, 42 RC4/D-/VM, 43 RC5/D+/VP, 44 RC6/TX/CK

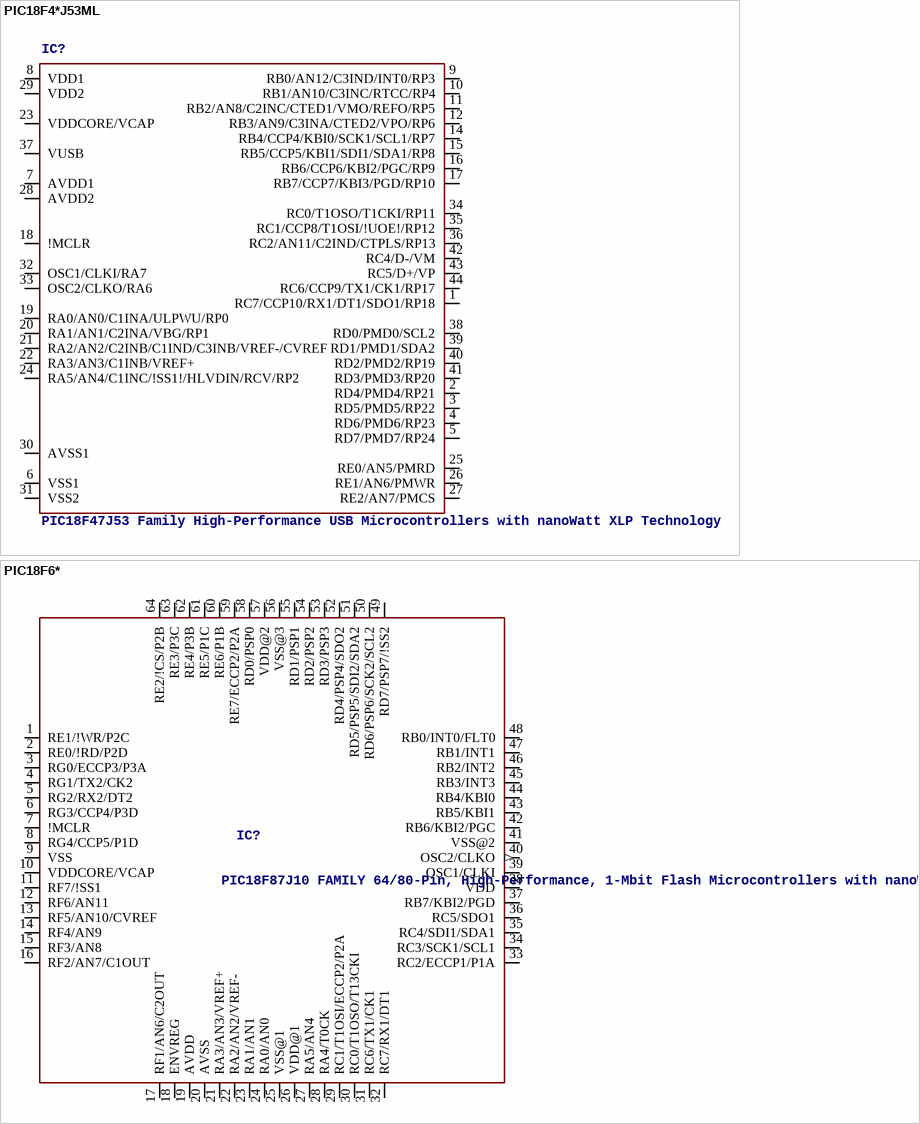
[diagram p24: symbols PIC18F4*J53ML to PIC18F6*]